# Altium schematic symbol library ColdFire MCU.SchLib: 117 symbols (part 2 of 7)
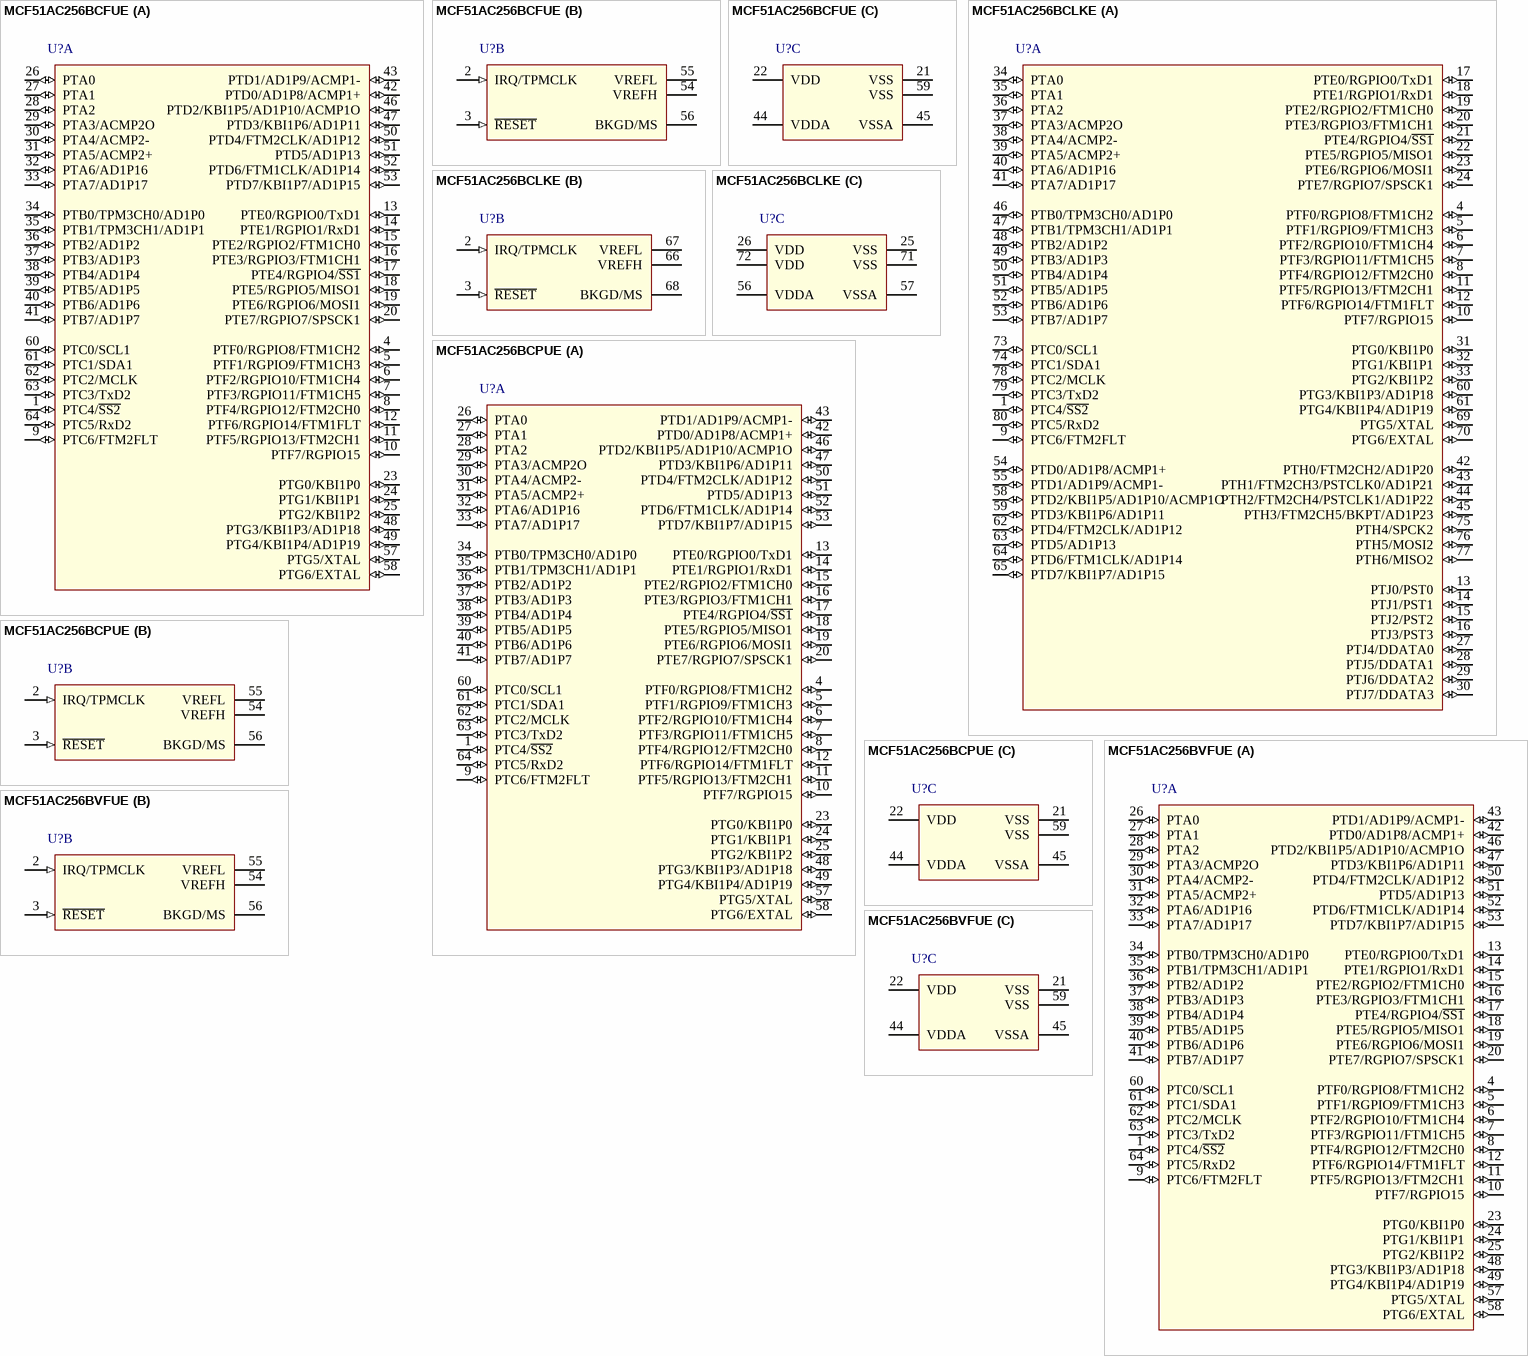
[diagram p32: symbols MCF51AC256BCFUE to MCF51AC256BVFUE]

## MCF51AC256BCLKE
designator U?
MCF51AC256 ColdFire V1 Microcontroller without CAN, 32-Bit, 256KB Flash, 32KB SRAM, -40°C to 85°C, 80-Pin LQFP; DatasheetVersion: rev6, Mar-2011; PackageVersion: revC, May-2005; PackageReference: 1418-01; PackageDescription: 80-Pin Quad Flat Pack 0.65 mm Pitch; ComponentLink1Description: Manufacturer URL; ComponentLink1URL: http://www.freescale.com/; ComponentLink2Description: Datasheet; ComponentLink2URL: http://cache.freescale.com/files/32bit/doc/data_sheet/MCF51AC256.pdf?fpsp=1&WT_TYPE=Data%20Sheets&WT_VENDOR=FREESCALE&WT_FILE_FORMAT=pdf&WT_ASSET=Documentation
footprint 1418-01_N (QFP, 80-Leads, Body 14x14mm, Pitch 0.65mm, IPC Medium Density)
footprint 1418-01_L (QFP, 80-Leads, Body 14x14mm, Pitch 0.65mm, IPC High Density)
footprint 1418-01_M (QFP, 80-Leads, Body 14x14mm, Pitch 0.65mm, IPC Low Density)
part A pins: 1 PTC4/~{SS2} (io), 4 PTF0/RGPIO8/FTM1CH2 (io), 5 PTF1/RGPIO9/FTM1CH3 (io), 6 PTF2/RGPIO10/FTM1CH4 (io), 7 PTF3/RGPIO11/FTM1CH5 (io), 8 PTF4/RGPIO12/FTM2CH0 (io), 9 PTC6/FTM2FLT (io), 10 PTF7/RGPIO15 (io), 11 PTF5/RGPIO13/FTM2CH1 (io), 12 PTF6/RGPIO14/FTM1FLT (io), 13 PTJ0/PST0 (io), 14 PTJ1/PST1 (io), 15 PTJ2/PST2 (io), 16 PTJ3/PST3 (io), 17 PTE0/RGPIO0/TxD1 (io), 18 PTE1/RGPIO1/RxD1 (io), 19 PTE2/RGPIO2/FTM1CH0 (io), 20 PTE3/RGPIO3/FTM1CH1 (io), 21 PTE4/RGPIO4/~{SS1} (io), 22 PTE5/RGPIO5/MISO1 (io), 23 PTE6/RGPIO6/MOSI1 (io), 24 PTE7/RGPIO7/SPSCK1 (io), 27 PTJ4/DDATA0 (io), 28 PTJ5/DDATA1 (io), 29 PTJ6/DDATA2 (io), 30 PTJ7/DDATA3 (io), 31 PTG0/KBI1P0 (io), 32 PTG1/KBI1P1 (io), 33 PTG2/KBI1P2 (io), 34 PTA0 (io), 35 PTA1 (io), 36 PTA2 (io), 37 PTA3/ACMP2O (io), 38 PTA4/ACMP2- (io), 39 PTA5/ACMP2+ (io), 40 PTA6/AD1P16 (io), 41 PTA7/AD1P17 (io), 42 PTH0/FTM2CH2/AD1P20 (io), 43 PTH1/FTM2CH3/PSTCLK0/AD1P21 (io), 44 PTH2/FTM2CH4/PSTCLK1/AD1P22 (io), 45 PTH3/FTM2CH5/BKPT/AD1P23 (io), 46 PTB0/TPM3CH0/AD1P0 (io), 47 PTB1/TPM3CH1/AD1P1 (io), 48 PTB2/AD1P2 (io), 49 PTB3/AD1P3 (io), 50 PTB4/AD1P4 (io), 51 PTB5/AD1P5 (io), 52 PTB6/AD1P6 (io), 53 PTB7/AD1P7 (io), 54 PTD0/AD1P8/ACMP1+ (io), 55 PTD1/AD1P9/ACMP1- (io), 58 PTD2/KBI1P5/AD1P10/ACMP1O (io), 59 PTD3/KBI1P6/AD1P11 (io), 60 PTG3/KBI1P3/AD1P18 (io), 61 PTG4/KBI1P4/AD1P19 (io), 62 PTD4/FTM2CLK/AD1P12 (io), 63 PTD5/AD1P13 (io), 64 PTD6/FTM1CLK/AD1P14 (io), 65 PTD7/KBI1P7/AD1P15 (io), 69 PTG5/XTAL (io), 70 PTG6/EXTAL (io), 73 PTC0/SCL1 (io), 74 PTC1/SDA1 (io), 75 PTH4/SPCK2 (io), 76 PTH5/MOSI2 (io), 77 PTH6/MISO2 (io), 78 PTC2/MCLK (io), 79 PTC3/TxD2 (io), 80 PTC5/RxD2 (io)
part B pins: 2 IRQ/TPMCLK (in), 3 ~{RESET} (in), 66 VREFH (power), 67 VREFL (power), 68 BKGD/MS
part C pins: 25 VSS (power), 26 VDD (power), 56 VDDA (power), 57 VSSA (power), 71 VSS (power), 72 VDD (power)

## MCF51AC256BCPUE
designator U?
MCF51AC256 ColdFire V1 Microcontroller without CAN, 32-Bit, 256KB Flash, 32KB SRAM, -40°C to 85°C, 64-Pin LQFP; DatasheetVersion: rev6, Mar-2011; PackageVersion: rev6, Mar-2011; PackageReference: 840F-02; PackageDescription: 64-Pin Thin Quad Flat Pack, 10 x 10 mm Body, 0.5 mm Pitch; ComponentLink1Description: Manufacturer URL; ComponentLink1URL: http://www.freescale.com/; ComponentLink2Description: Datasheet; ComponentLink2URL: http://cache.freescale.com/files/32bit/doc/data_sheet/MCF51AC256.pdf?fpsp=1&WT_TYPE=Data%20Sheets&WT_VENDOR=FREESCALE&WT_FILE_FORMAT=pdf&WT_ASSET=Documentation
footprint 840F-02_N (Thin QFP, 64-Leads, Body 10x10mm, Pitch 0.5mm, IPC Medium Density)
footprint 840F-02_L (Thin QFP, 64-Leads, Body 10x10mm, Pitch 0.5mm, IPC High Density)
footprint 840F-02_M (Thin QFP, 64-Leads, Body 10x10mm, Pitch 0.5mm, IPC Low Density)
part A pins: 1 PTC4/~{SS2} (io), 4 PTF0/RGPIO8/FTM1CH2 (io), 5 PTF1/RGPIO9/FTM1CH3 (io), 6 PTF2/RGPIO10/FTM1CH4 (io), 7 PTF3/RGPIO11/FTM1CH5 (io), 8 PTF4/RGPIO12/FTM2CH0 (io), 9 PTC6/FTM2FLT (io), 10 PTF7/RGPIO15 (io), 11 PTF5/RGPIO13/FTM2CH1 (io), 12 PTF6/RGPIO14/FTM1FLT (io), 13 PTE0/RGPIO0/TxD1 (io), 14 PTE1/RGPIO1/RxD1 (io), 15 PTE2/RGPIO2/FTM1CH0 (io), 16 PTE3/RGPIO3/FTM1CH1 (io), 17 PTE4/RGPIO4/~{SS1} (io), 18 PTE5/RGPIO5/MISO1 (io), 19 PTE6/RGPIO6/MOSI1 (io), 20 PTE7/RGPIO7/SPSCK1 (io), 23 PTG0/KBI1P0 (io), 24 PTG1/KBI1P1 (io), 25 PTG2/KBI1P2 (io), 26 PTA0 (io), 27 PTA1 (io), 28 PTA2 (io), 29 PTA3/ACMP2O (io), 30 PTA4/ACMP2- (io), 31 PTA5/ACMP2+ (io), 32 PTA6/AD1P16 (io), 33 PTA7/AD1P17 (io), 34 PTB0/TPM3CH0/AD1P0 (io), 35 PTB1/TPM3CH1/AD1P1 (io), 36 PTB2/AD1P2 (io), 37 PTB3/AD1P3 (io), 38 PTB4/AD1P4 (io), 39 PTB5/AD1P5 (io), 40 PTB6/AD1P6 (io), 41 PTB7/AD1P7 (io), 42 PTD0/AD1P8/ACMP1+ (io), 43 PTD1/AD1P9/ACMP1- (io), 46 PTD2/KBI1P5/AD1P10/ACMP1O (io), 47 PTD3/KBI1P6/AD1P11 (io), 48 PTG3/KBI1P3/AD1P18 (io), 49 PTG4/KBI1P4/AD1P19 (io), 50 PTD4/FTM2CLK/AD1P12 (io), 51 PTD5/AD1P13 (io), 52 PTD6/FTM1CLK/AD1P14 (io), 53 PTD7/KBI1P7/AD1P15 (io), 57 PTG5/XTAL (io), 58 PTG6/EXTAL (io), 60 PTC0/SCL1 (io), 61 PTC1/SDA1 (io), 62 PTC2/MCLK (io), 63 PTC3/TxD2 (io), 64 PTC5/RxD2 (io)
part B pins: 2 IRQ/TPMCLK (in), 3 ~{RESET} (in), 54 VREFH (power), 55 VREFL (power), 56 BKGD/MS
part C pins: 21 VSS (power), 22 VDD (power), 44 VDDA (power), 45 VSSA (power), 59 VSS (power)

## MCF51AC256BVFUE
designator U?
MCF51AC256 ColdFire V1 Microcontroller without CAN, 32-Bit, 256KB Flash, 32KB SRAM, -40°C to 105°C, 64-Pin QFP; DatasheetVersion: rev6, Mar-2011; PackageVersion: rev6, Mar-2011; PackageReference: 840B-02; PackageDescription: 64-Pin Quad Flat Pack, 14 x 14 mm Body, 0.8 mm Pitch; ComponentLink1Description: Manufacturer URL; ComponentLink1URL: http://www.freescale.com/; ComponentLink2Description: Datasheet; ComponentLink2URL: http://cache.freescale.com/files/32bit/doc/data_sheet/MCF51AC256.pdf?fpsp=1&WT_TYPE=Data%20Sheets&WT_VENDOR=FREESCALE&WT_FILE_FORMAT=pdf&WT_ASSET=Documentation
footprint 840B-02_N (QFP, 64-Leads, Body 14x14mm, Pitch 0.8mm, IPC Medium Density)
footprint 840B-02_L (QFP, 64-Leads, Body 14x14mm, Pitch 0.8mm, IPC High Density)
footprint 840B-02_M (QFP, 64-Leads, Body 14x14mm, Pitch 0.8mm, IPC Low Density)
part A pins: 1 PTC4/~{SS2} (io), 4 PTF0/RGPIO8/FTM1CH2 (io), 5 PTF1/RGPIO9/FTM1CH3 (io), 6 PTF2/RGPIO10/FTM1CH4 (io), 7 PTF3/RGPIO11/FTM1CH5 (io), 8 PTF4/RGPIO12/FTM2CH0 (io), 9 PTC6/FTM2FLT (io), 10 PTF7/RGPIO15 (io), 11 PTF5/RGPIO13/FTM2CH1 (io), 12 PTF6/RGPIO14/FTM1FLT (io), 13 PTE0/RGPIO0/TxD1 (io), 14 PTE1/RGPIO1/RxD1 (io), 15 PTE2/RGPIO2/FTM1CH0 (io), 16 PTE3/RGPIO3/FTM1CH1 (io), 17 PTE4/RGPIO4/~{SS1} (io), 18 PTE5/RGPIO5/MISO1 (io), 19 PTE6/RGPIO6/MOSI1 (io), 20 PTE7/RGPIO7/SPSCK1 (io), 23 PTG0/KBI1P0 (io), 24 PTG1/KBI1P1 (io), 25 PTG2/KBI1P2 (io), 26 PTA0 (io), 27 PTA1 (io), 28 PTA2 (io), 29 PTA3/ACMP2O (io), 30 PTA4/ACMP2- (io), 31 PTA5/ACMP2+ (io), 32 PTA6/AD1P16 (io), 33 PTA7/AD1P17 (io), 34 PTB0/TPM3CH0/AD1P0 (io), 35 PTB1/TPM3CH1/AD1P1 (io), 36 PTB2/AD1P2 (io), 37 PTB3/AD1P3 (io), 38 PTB4/AD1P4 (io), 39 PTB5/AD1P5 (io), 40 PTB6/AD1P6 (io), 41 PTB7/AD1P7 (io), 42 PTD0/AD1P8/ACMP1+ (io), 43 PTD1/AD1P9/ACMP1- (io), 46 PTD2/KBI1P5/AD1P10/ACMP1O (io), 47 PTD3/KBI1P6/AD1P11 (io), 48 PTG3/KBI1P3/AD1P18 (io), 49 PTG4/KBI1P4/AD1P19 (io), 50 PTD4/FTM2CLK/AD1P12 (io), 51 PTD5/AD1P13 (io), 52 PTD6/FTM1CLK/AD1P14 (io), 53 PTD7/KBI1P7/AD1P15 (io), 57 PTG5/XTAL (io), 58 PTG6/EXTAL (io), 60 PTC0/SCL1 (io), 61 PTC1/SDA1 (io), 62 PTC2/MCLK (io), 63 PTC3/TxD2 (io), 64 PTC5/RxD2 (io)
part B pins: 2 IRQ/TPMCLK (in), 3 ~{RESET} (in), 54 VREFH (power), 55 VREFL (power), 56 BKGD/MS
part C pins: 21 VSS (power), 22 VDD (power), 44 VDDA (power), 45 VSSA (power), 59 VSS (power)

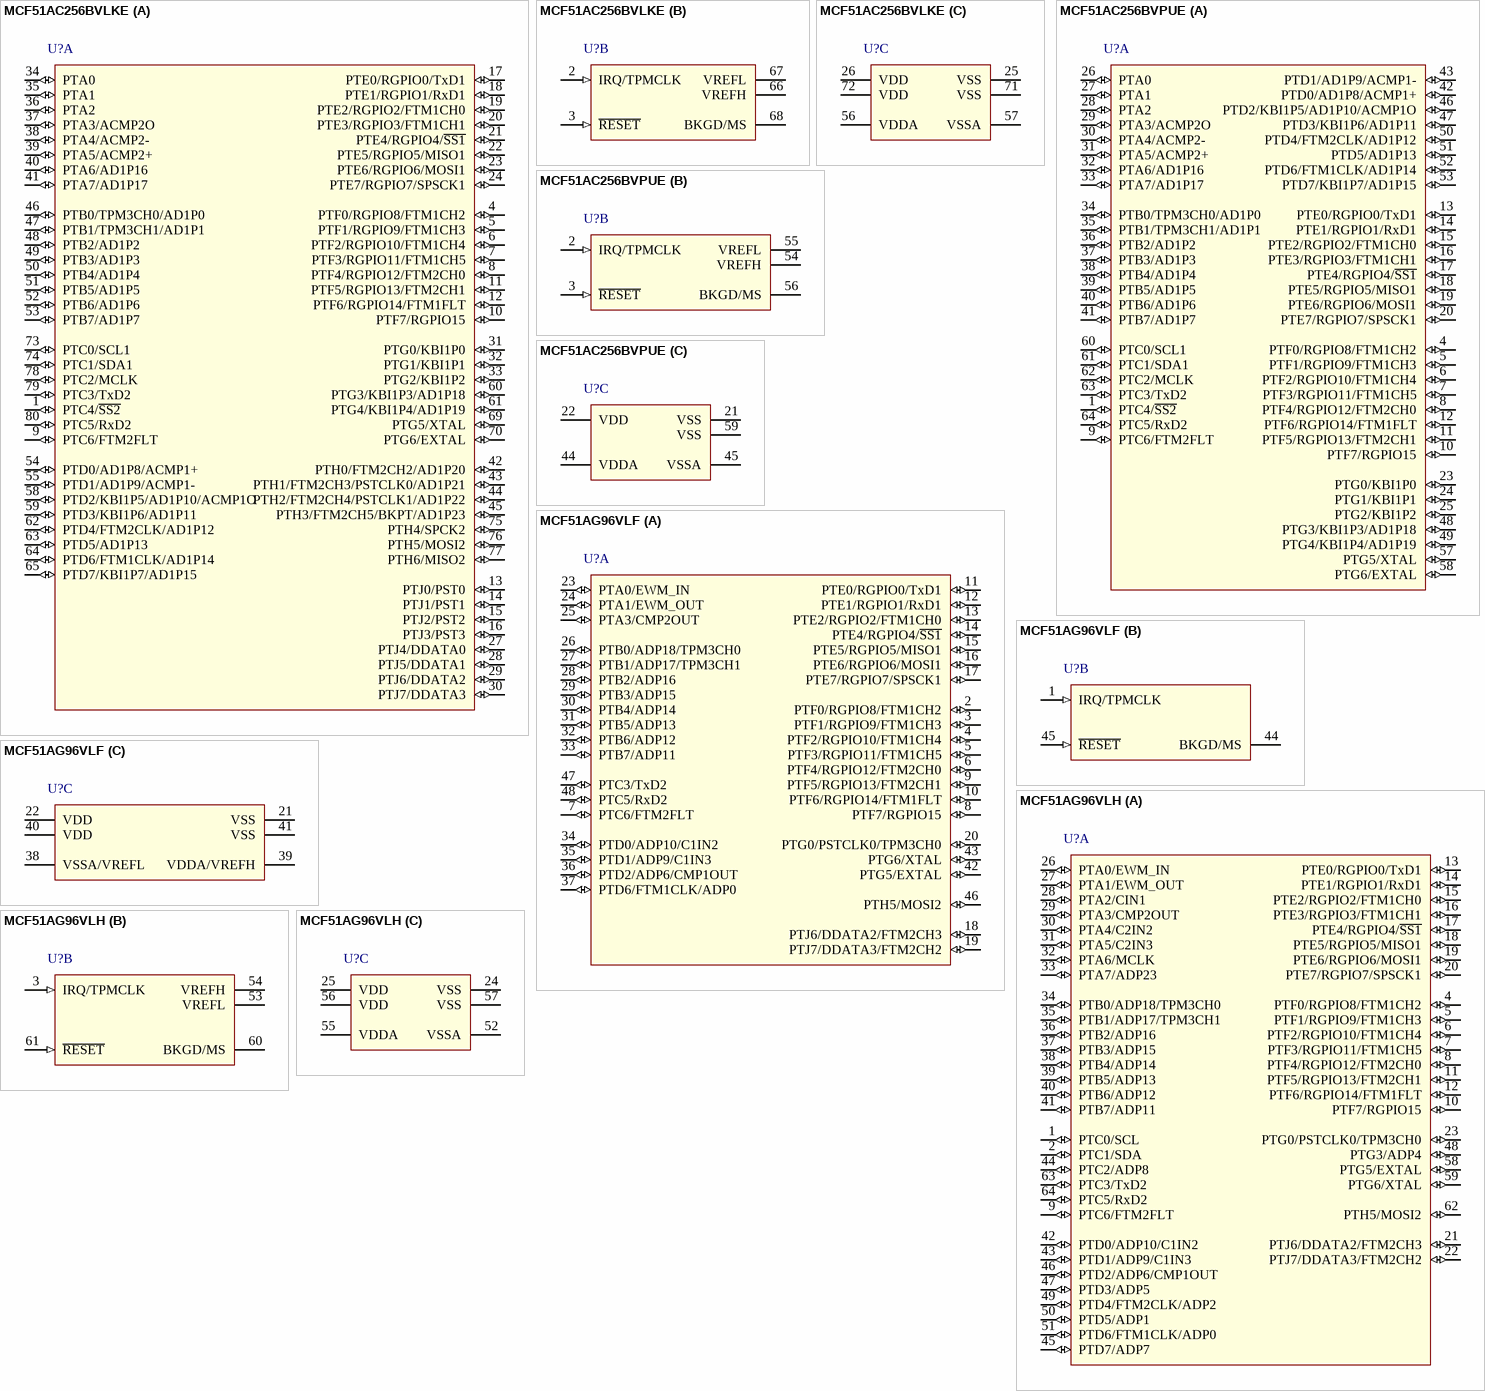
[diagram p5: symbols MCF51AC256BVLKE to MCF51AG96VLH]

## MCF51AC256BVLKE
designator U?
MCF51AC256 ColdFire V1 Microcontroller without CAN, 32-Bit, 256KB Flash, 32KB SRAM, -40°C to 105°C, 80-Pin LQFP; DatasheetVersion: rev6, Mar-2011; PackageVersion: revC, May-2005; PackageReference: 1418-01; PackageDescription: 80-Pin Quad Flat Pack 0.65 mm Pitch; ComponentLink1Description: Manufacturer URL; ComponentLink1URL: http://www.freescale.com/; ComponentLink2Description: Datasheet; ComponentLink2URL: http://cache.freescale.com/files/32bit/doc/data_sheet/MCF51AC256.pdf?fpsp=1&WT_TYPE=Data%20Sheets&WT_VENDOR=FREESCALE&WT_FILE_FORMAT=pdf&WT_ASSET=Documentation
footprint 1418-01_N (QFP, 80-Leads, Body 14x14mm, Pitch 0.65mm, IPC Medium Density)
footprint 1418-01_L (QFP, 80-Leads, Body 14x14mm, Pitch 0.65mm, IPC High Density)
footprint 1418-01_M (QFP, 80-Leads, Body 14x14mm, Pitch 0.65mm, IPC Low Density)
part A pins: 1 PTC4/~{SS2} (io), 4 PTF0/RGPIO8/FTM1CH2 (io), 5 PTF1/RGPIO9/FTM1CH3 (io), 6 PTF2/RGPIO10/FTM1CH4 (io), 7 PTF3/RGPIO11/FTM1CH5 (io), 8 PTF4/RGPIO12/FTM2CH0 (io), 9 PTC6/FTM2FLT (io), 10 PTF7/RGPIO15 (io), 11 PTF5/RGPIO13/FTM2CH1 (io), 12 PTF6/RGPIO14/FTM1FLT (io), 13 PTJ0/PST0 (io), 14 PTJ1/PST1 (io), 15 PTJ2/PST2 (io), 16 PTJ3/PST3 (io), 17 PTE0/RGPIO0/TxD1 (io), 18 PTE1/RGPIO1/RxD1 (io), 19 PTE2/RGPIO2/FTM1CH0 (io), 20 PTE3/RGPIO3/FTM1CH1 (io), 21 PTE4/RGPIO4/~{SS1} (io), 22 PTE5/RGPIO5/MISO1 (io), 23 PTE6/RGPIO6/MOSI1 (io), 24 PTE7/RGPIO7/SPSCK1 (io), 27 PTJ4/DDATA0 (io), 28 PTJ5/DDATA1 (io), 29 PTJ6/DDATA2 (io), 30 PTJ7/DDATA3 (io), 31 PTG0/KBI1P0 (io), 32 PTG1/KBI1P1 (io), 33 PTG2/KBI1P2 (io), 34 PTA0 (io), 35 PTA1 (io), 36 PTA2 (io), 37 PTA3/ACMP2O (io), 38 PTA4/ACMP2- (io), 39 PTA5/ACMP2+ (io), 40 PTA6/AD1P16 (io), 41 PTA7/AD1P17 (io), 42 PTH0/FTM2CH2/AD1P20 (io), 43 PTH1/FTM2CH3/PSTCLK0/AD1P21 (io), 44 PTH2/FTM2CH4/PSTCLK1/AD1P22 (io), 45 PTH3/FTM2CH5/BKPT/AD1P23 (io), 46 PTB0/TPM3CH0/AD1P0 (io), 47 PTB1/TPM3CH1/AD1P1 (io), 48 PTB2/AD1P2 (io), 49 PTB3/AD1P3 (io), 50 PTB4/AD1P4 (io), 51 PTB5/AD1P5 (io), 52 PTB6/AD1P6 (io), 53 PTB7/AD1P7 (io), 54 PTD0/AD1P8/ACMP1+ (io), 55 PTD1/AD1P9/ACMP1- (io), 58 PTD2/KBI1P5/AD1P10/ACMP1O (io), 59 PTD3/KBI1P6/AD1P11 (io), 60 PTG3/KBI1P3/AD1P18 (io), 61 PTG4/KBI1P4/AD1P19 (io), 62 PTD4/FTM2CLK/AD1P12 (io), 63 PTD5/AD1P13 (io), 64 PTD6/FTM1CLK/AD1P14 (io), 65 PTD7/KBI1P7/AD1P15 (io), 69 PTG5/XTAL (io), 70 PTG6/EXTAL (io), 73 PTC0/SCL1 (io), 74 PTC1/SDA1 (io), 75 PTH4/SPCK2 (io), 76 PTH5/MOSI2 (io), 77 PTH6/MISO2 (io), 78 PTC2/MCLK (io), 79 PTC3/TxD2 (io), 80 PTC5/RxD2 (io)
part B pins: 2 IRQ/TPMCLK (in), 3 ~{RESET} (in), 66 VREFH (power), 67 VREFL (power), 68 BKGD/MS
part C pins: 25 VSS (power), 26 VDD (power), 56 VDDA (power), 57 VSSA (power), 71 VSS (power), 72 VDD (power)

## MCF51AC256BVPUE
designator U?
MCF51AC256 ColdFire V1 Microcontroller without CAN, 32-Bit, 256KB Flash, 32KB SRAM, -40°C to 105°C, 64-Pin LQFP; DatasheetVersion: rev6, Mar-2011; PackageVersion: rev6, Mar-2011; PackageReference: 840F-02; PackageDescription: 64-Pin Thin Quad Flat Pack, 10 x 10 mm Body, 0.5 mm Pitch; ComponentLink1Description: Manufacturer URL; ComponentLink1URL: http://www.freescale.com/; ComponentLink2Description: Datasheet; ComponentLink2URL: http://cache.freescale.com/files/32bit/doc/data_sheet/MCF51AC256.pdf?fpsp=1&WT_TYPE=Data%20Sheets&WT_VENDOR=FREESCALE&WT_FILE_FORMAT=pdf&WT_ASSET=Documentation
footprint 840F-02_N (Thin QFP, 64-Leads, Body 10x10mm, Pitch 0.5mm, IPC Medium Density)
footprint 840F-02_L (Thin QFP, 64-Leads, Body 10x10mm, Pitch 0.5mm, IPC High Density)
footprint 840F-02_M (Thin QFP, 64-Leads, Body 10x10mm, Pitch 0.5mm, IPC Low Density)
part A pins: 1 PTC4/~{SS2} (io), 4 PTF0/RGPIO8/FTM1CH2 (io), 5 PTF1/RGPIO9/FTM1CH3 (io), 6 PTF2/RGPIO10/FTM1CH4 (io), 7 PTF3/RGPIO11/FTM1CH5 (io), 8 PTF4/RGPIO12/FTM2CH0 (io), 9 PTC6/FTM2FLT (io), 10 PTF7/RGPIO15 (io), 11 PTF5/RGPIO13/FTM2CH1 (io), 12 PTF6/RGPIO14/FTM1FLT (io), 13 PTE0/RGPIO0/TxD1 (io), 14 PTE1/RGPIO1/RxD1 (io), 15 PTE2/RGPIO2/FTM1CH0 (io), 16 PTE3/RGPIO3/FTM1CH1 (io), 17 PTE4/RGPIO4/~{SS1} (io), 18 PTE5/RGPIO5/MISO1 (io), 19 PTE6/RGPIO6/MOSI1 (io), 20 PTE7/RGPIO7/SPSCK1 (io), 23 PTG0/KBI1P0 (io), 24 PTG1/KBI1P1 (io), 25 PTG2/KBI1P2 (io), 26 PTA0 (io), 27 PTA1 (io), 28 PTA2 (io), 29 PTA3/ACMP2O (io), 30 PTA4/ACMP2- (io), 31 PTA5/ACMP2+ (io), 32 PTA6/AD1P16 (io), 33 PTA7/AD1P17 (io), 34 PTB0/TPM3CH0/AD1P0 (io), 35 PTB1/TPM3CH1/AD1P1 (io), 36 PTB2/AD1P2 (io), 37 PTB3/AD1P3 (io), 38 PTB4/AD1P4 (io), 39 PTB5/AD1P5 (io), 40 PTB6/AD1P6 (io), 41 PTB7/AD1P7 (io), 42 PTD0/AD1P8/ACMP1+ (io), 43 PTD1/AD1P9/ACMP1- (io), 46 PTD2/KBI1P5/AD1P10/ACMP1O (io), 47 PTD3/KBI1P6/AD1P11 (io), 48 PTG3/KBI1P3/AD1P18 (io), 49 PTG4/KBI1P4/AD1P19 (io), 50 PTD4/FTM2CLK/AD1P12 (io), 51 PTD5/AD1P13 (io), 52 PTD6/FTM1CLK/AD1P14 (io), 53 PTD7/KBI1P7/AD1P15 (io), 57 PTG5/XTAL (io), 58 PTG6/EXTAL (io), 60 PTC0/SCL1 (io), 61 PTC1/SDA1 (io), 62 PTC2/MCLK (io), 63 PTC3/TxD2 (io), 64 PTC5/RxD2 (io)
part B pins: 2 IRQ/TPMCLK (in), 3 ~{RESET} (in), 54 VREFH (power), 55 VREFL (power), 56 BKGD/MS
part C pins: 21 VSS (power), 22 VDD (power), 44 VDDA (power), 45 VSSA (power), 59 VSS (power)

## MCF51AG96VLF
designator U?
MCF51AG96 ColdFire V1 Microcontroller, 32-Bit,  96KB Flash, 16KB SRAM, -40°C to 105°C, 48-Pin LQFP; DatasheetVersion: rev5, Jun-2010; PackageVersion: revG, Apr-2005; PackageReference: 932-03; PackageDescription: LQFP, 48 Lead, 7 x 7 x 1.4mm, 0.5mm Pitch; Code_JEDEC: MS-026-BBC; ComponentLink1Description: Manufacturer URL; ComponentLink1URL: http://www.freescale.com/; ComponentLink2Description: Datasheet; ComponentLink2URL: http://cache.freescale.com/files/32bit/doc/data_sheet/MCF51AG128.pdf?fpsp=1&WT_TYPE=Data%20Sheets&WT_VENDOR=FREESCALE&WT_FILE_FORMAT=pdf&WT_ASSET=Documentation
footprint 932-03_N (Thin QFP, 48-Leads, Body 7x7mm, Pitch 0.5mm, IPC Medium Density)
footprint 932-03_L (Thin QFP, 48-Leads, Body 7x7mm, Pitch 0.5mm, IPC High Density)
footprint 932-03_M (Thin QFP, 48-Leads, Body 7x7mm, Pitch 0.5mm, IPC Low Density)
part A pins: 2 PTF0/RGPIO8/FTM1CH2 (io), 3 PTF1/RGPIO9/FTM1CH3 (io), 4 PTF2/RGPIO10/FTM1CH4 (io), 5 PTF3/RGPIO11/FTM1CH5 (io), 6 PTF4/RGPIO12/FTM2CH0 (io), 7 PTC6/FTM2FLT (io), 8 PTF7/RGPIO15 (io), 9 PTF5/RGPIO13/FTM2CH1 (io), 10 PTF6/RGPIO14/FTM1FLT (io), 11 PTE0/RGPIO0/TxD1 (io), 12 PTE1/RGPIO1/RxD1 (io), 13 PTE2/RGPIO2/FTM1CH0 (io), 14 PTE4/RGPIO4/~{SS1} (io), 15 PTE5/RGPIO5/MISO1 (io), 16 PTE6/RGPIO6/MOSI1 (io), 17 PTE7/RGPIO7/SPSCK1 (io), 18 PTJ6/DDATA2/FTM2CH3 (io), 19 PTJ7/DDATA3/FTM2CH2 (io), 20 PTG0/PSTCLK0/TPM3CH0 (io), 23 PTA0/EWM_IN (io), 24 PTA1/EWM_OUT (io), 25 PTA3/CMP2OUT (io), 26 PTB0/ADP18/TPM3CH0 (io), 27 PTB1/ADP17/TPM3CH1 (io), 28 PTB2/ADP16 (io), 29 PTB3/ADP15 (io), 30 PTB4/ADP14 (io), 31 PTB5/ADP13 (io), 32 PTB6/ADP12 (io), 33 PTB7/ADP11 (io), 34 PTD0/ADP10/C1IN2 (io), 35 PTD1/ADP9/C1IN3 (io), 36 PTD2/ADP6/CMP1OUT (io), 37 PTD6/FTM1CLK/ADP0 (io), 42 PTG5/EXTAL (io), 43 PTG6/XTAL (io), 46 PTH5/MOSI2 (io), 47 PTC3/TxD2 (io), 48 PTC5/RxD2 (io)
part B pins: 1 IRQ/TPMCLK (in), 44 BKGD/MS, 45 ~{RESET} (in)
part C pins: 21 VSS (power), 22 VDD (power), 38 VSSA/VREFL (power), 39 VDDA/VREFH (power), 40 VDD (power), 41 VSS (power)

## MCF51AG96VLH
designator U?
MCF51AG96 ColdFire V1 Microcontroller, 32-Bit,  96KB Flash, 16KB SRAM, -40°C to 105°C, 64-Pin LQFP; DatasheetVersion: rev5, Jun-2010; PackageVersion: rev6, Mar-2011; PackageReference: 840F-02; PackageDescription: 64-Pin Thin Quad Flat Pack, 10 x 10 mm Body, 0.5 mm Pitch; ComponentLink1Description: Manufacturer URL; ComponentLink1URL: http://www.freescale.com/; ComponentLink2Description: Datasheet; ComponentLink2URL: http://cache.freescale.com/files/32bit/doc/data_sheet/MCF51AG128.pdf?fpsp=1&WT_TYPE=Data%20Sheets&WT_VENDOR=FREESCALE&WT_FILE_FORMAT=pdf&WT_ASSET=Documentation
footprint 840F-02_N (Thin QFP, 64-Leads, Body 10x10mm, Pitch 0.5mm, IPC Medium Density)
footprint 840F-02_L (Thin QFP, 64-Leads, Body 10x10mm, Pitch 0.5mm, IPC High Density)
footprint 840F-02_M (Thin QFP, 64-Leads, Body 10x10mm, Pitch 0.5mm, IPC Low Density)
part A pins: 1 PTC0/SCL (io), 2 PTC1/SDA (io), 4 PTF0/RGPIO8/FTM1CH2 (io), 5 PTF1/RGPIO9/FTM1CH3 (io), 6 PTF2/RGPIO10/FTM1CH4 (io), 7 PTF3/RGPIO11/FTM1CH5 (io), 8 PTF4/RGPIO12/FTM2CH0 (io), 9 PTC6/FTM2FLT (io), 10 PTF7/RGPIO15 (io), 11 PTF5/RGPIO13/FTM2CH1 (io), 12 PTF6/RGPIO14/FTM1FLT (io), 13 PTE0/RGPIO0/TxD1 (io), 14 PTE1/RGPIO1/RxD1 (io), 15 PTE2/RGPIO2/FTM1CH0 (io), 16 PTE3/RGPIO3/FTM1CH1 (io), 17 PTE4/RGPIO4/~{SS1} (io), 18 PTE5/RGPIO5/MISO1 (io), 19 PTE6/RGPIO6/MOSI1 (io), 20 PTE7/RGPIO7/SPSCK1 (io), 21 PTJ6/DDATA2/FTM2CH3 (io), 22 PTJ7/DDATA3/FTM2CH2 (io), 23 PTG0/PSTCLK0/TPM3CH0 (io), 26 PTA0/EWM_IN (io), 27 PTA1/EWM_OUT (io), 28 PTA2/CIN1 (io), 29 PTA3/CMP2OUT (io), 30 PTA4/C2IN2 (io), 31 PTA5/C2IN3 (io), 32 PTA6/MCLK (io), 33 PTA7/ADP23 (io), 34 PTB0/ADP18/TPM3CH0 (io), 35 PTB1/ADP17/TPM3CH1 (io), 36 PTB2/ADP16 (io), 37 PTB3/ADP15 (io), 38 PTB4/ADP14 (io), 39 PTB5/ADP13 (io), 40 PTB6/ADP12 (io), 41 PTB7/ADP11 (io), 42 PTD0/ADP10/C1IN2 (io), 43 PTD1/ADP9/C1IN3 (io), 44 PTC2/ADP8 (io), 45 PTD7/ADP7 (io), 46 PTD2/ADP6/CMP1OUT (io), 47 PTD3/ADP5 (io), 48 PTG3/ADP4 (io), 49 PTD4/FTM2CLK/ADP2 (io), 50 PTD5/ADP1 (io), 51 PTD6/FTM1CLK/ADP0 (io), 58 PTG5/EXTAL (io), 59 PTG6/XTAL (io), 62 PTH5/MOSI2 (io), 63 PTC3/TxD2 (io), 64 PTC5/RxD2 (io)
part B pins: 3 IRQ/TPMCLK (in), 53 VREFL (power), 54 VREFH (power), 60 BKGD/MS, 61 ~{RESET} (in)
part C pins: 24 VSS (power), 25 VDD (power), 52 VSSA (power), 55 VDDA (power), 56 VDD (power), 57 VSS (power)

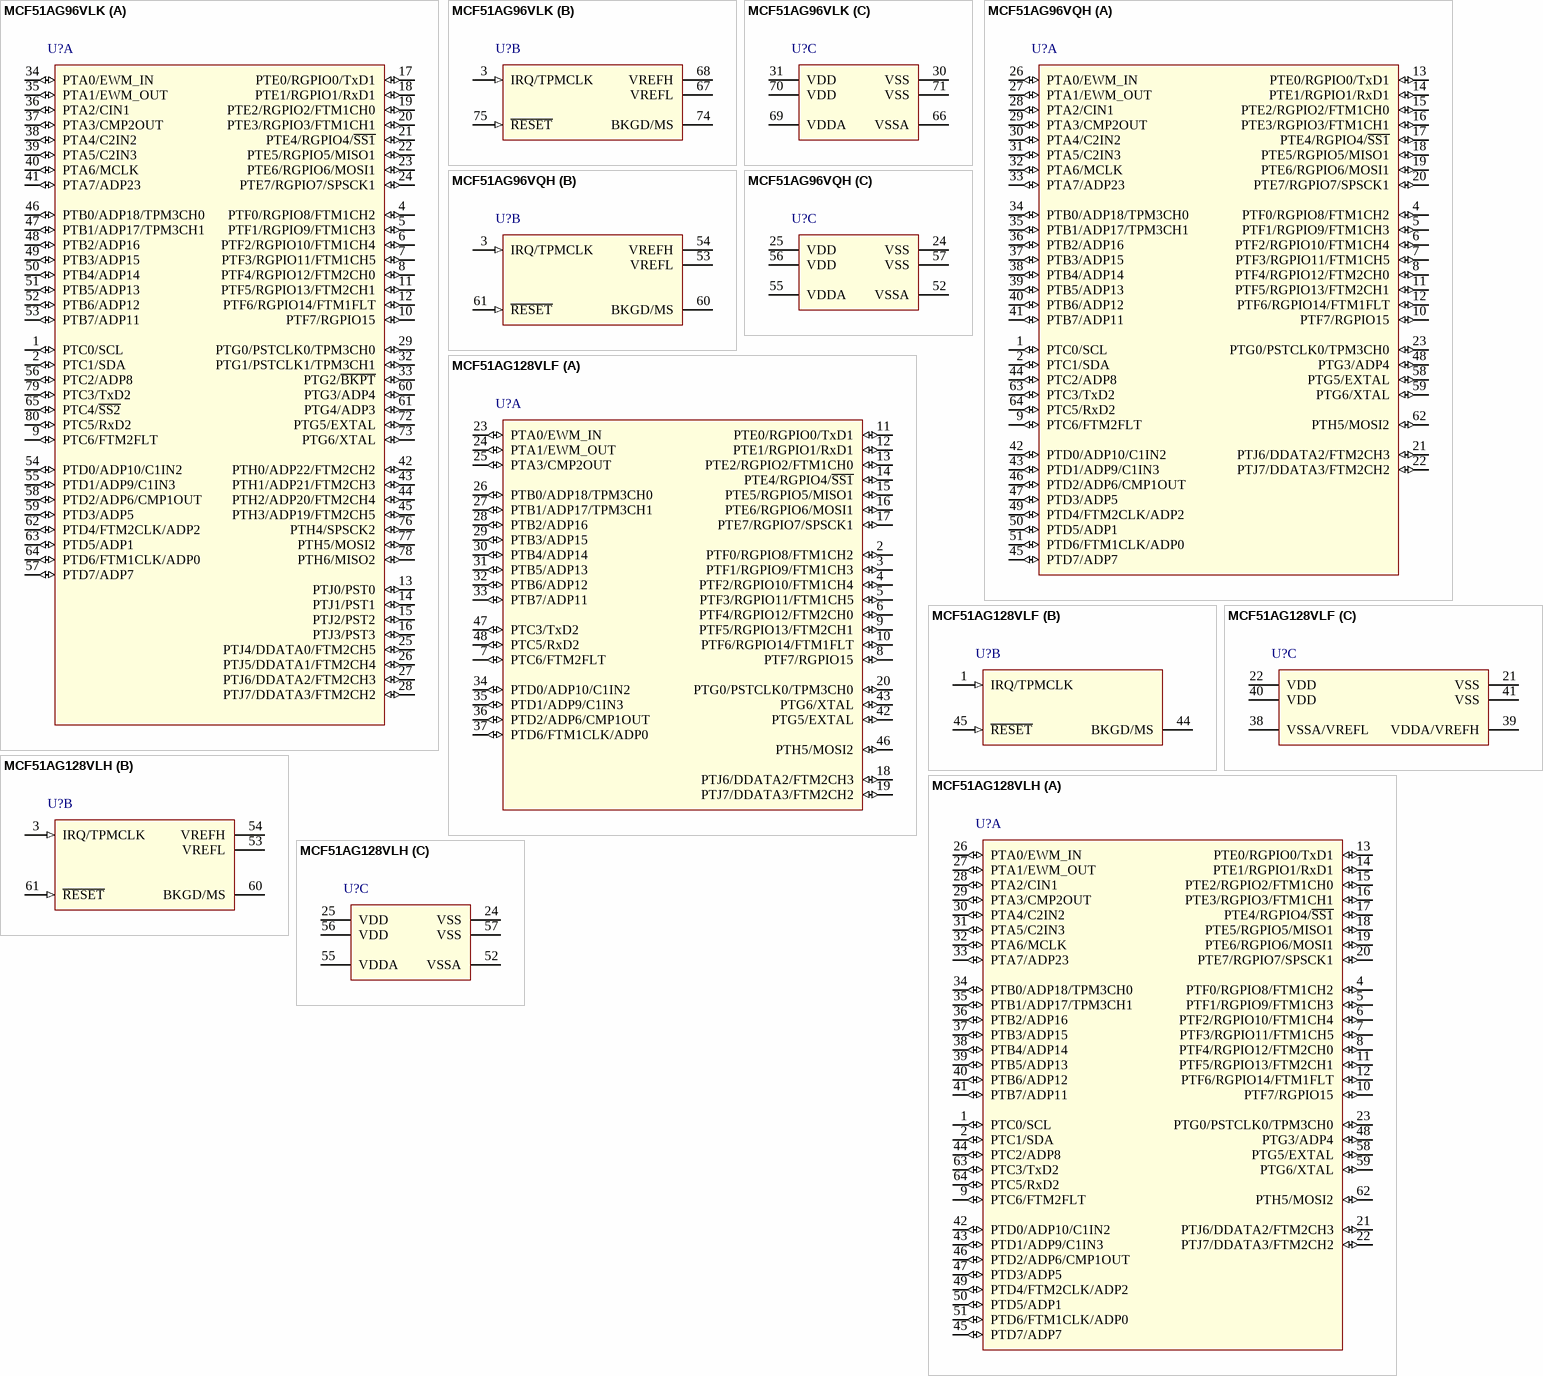
[diagram p6: symbols MCF51AG96VLK to MCF51AG128VLH]

## MCF51AG96VLK
designator U?
MCF51AG96 ColdFire V1 Microcontroller, 32-Bit,  96KB Flash, 16KB SRAM, -40°C to 105°C, 80-Pin LQFP; DatasheetVersion: rev5, Jun-2010; PackageVersion: revC, May-2005; PackageReference: 1418-01; PackageDescription: 80-Pin Quad Flat Pack 0.65 mm Pitch; ComponentLink1Description: Manufacturer URL; ComponentLink1URL: http://www.freescale.com/; ComponentLink2Description: Datasheet; ComponentLink2URL: http://cache.freescale.com/files/32bit/doc/data_sheet/MCF51AG128.pdf?fpsp=1&WT_TYPE=Data%20Sheets&WT_VENDOR=FREESCALE&WT_FILE_FORMAT=pdf&WT_ASSET=Documentation
footprint 1418-01_N (QFP, 80-Leads, Body 14x14mm, Pitch 0.65mm, IPC Medium Density)
footprint 1418-01_L (QFP, 80-Leads, Body 14x14mm, Pitch 0.65mm, IPC High Density)
footprint 1418-01_M (QFP, 80-Leads, Body 14x14mm, Pitch 0.65mm, IPC Low Density)
part A pins: 1 PTC0/SCL (io), 2 PTC1/SDA (io), 4 PTF0/RGPIO8/FTM1CH2 (io), 5 PTF1/RGPIO9/FTM1CH3 (io), 6 PTF2/RGPIO10/FTM1CH4 (io), 7 PTF3/RGPIO11/FTM1CH5 (io), 8 PTF4/RGPIO12/FTM2CH0 (io), 9 PTC6/FTM2FLT (io), 10 PTF7/RGPIO15 (io), 11 PTF5/RGPIO13/FTM2CH1 (io), 12 PTF6/RGPIO14/FTM1FLT (io), 13 PTJ0/PST0 (io), 14 PTJ1/PST1 (io), 15 PTJ2/PST2 (io), 16 PTJ3/PST3 (io), 17 PTE0/RGPIO0/TxD1 (io), 18 PTE1/RGPIO1/RxD1 (io), 19 PTE2/RGPIO2/FTM1CH0 (io), 20 PTE3/RGPIO3/FTM1CH1 (io), 21 PTE4/RGPIO4/~{SS1} (io), 22 PTE5/RGPIO5/MISO1 (io), 23 PTE6/RGPIO6/MOSI1 (io), 24 PTE7/RGPIO7/SPSCK1 (io), 25 PTJ4/DDATA0/FTM2CH5 (io), 26 PTJ5/DDATA1/FTM2CH4 (io), 27 PTJ6/DDATA2/FTM2CH3 (io), 28 PTJ7/DDATA3/FTM2CH2 (io), 29 PTG0/PSTCLK0/TPM3CH0 (io), 32 PTG1/PSTCLK1/TPM3CH1 (io), 33 PTG2/~{BKPT} (io), 34 PTA0/EWM_IN (io), 35 PTA1/EWM_OUT (io), 36 PTA2/CIN1 (io), 37 PTA3/CMP2OUT (io), 38 PTA4/C2IN2 (io), 39 PTA5/C2IN3 (io), 40 PTA6/MCLK (io), 41 PTA7/ADP23 (io), 42 PTH0/ADP22/FTM2CH2 (io), 43 PTH1/ADP21/FTM2CH3 (io), 44 PTH2/ADP20/FTM2CH4 (io), 45 PTH3/ADP19/FTM2CH5 (io), 46 PTB0/ADP18/TPM3CH0 (io), 47 PTB1/ADP17/TPM3CH1 (io), 48 PTB2/ADP16 (io), 49 PTB3/ADP15 (io), 50 PTB4/ADP14 (io), 51 PTB5/ADP13 (io), 52 PTB6/ADP12 (io), 53 PTB7/ADP11 (io), 54 PTD0/ADP10/C1IN2 (io), 55 PTD1/ADP9/C1IN3 (io), 56 PTC2/ADP8 (io), 57 PTD7/ADP7 (io), 58 PTD2/ADP6/CMP1OUT (io), 59 PTD3/ADP5 (io), 60 PTG3/ADP4 (io), 61 PTG4/ADP3 (io), 62 PTD4/FTM2CLK/ADP2 (io), 63 PTD5/ADP1 (io), 64 PTD6/FTM1CLK/ADP0 (io), 65 PTC4/~{SS2} (io), 72 PTG5/EXTAL (io), 73 PTG6/XTAL (io), 76 PTH4/SPSCK2 (io), 77 PTH5/MOSI2 (io), 78 PTH6/MISO2 (io), 79 PTC3/TxD2 (io), 80 PTC5/RxD2 (io)
part B pins: 3 IRQ/TPMCLK (in), 67 VREFL (power), 68 VREFH (power), 74 BKGD/MS, 75 ~{RESET} (in)
part C pins: 30 VSS (power), 31 VDD (power), 66 VSSA (power), 69 VDDA (power), 70 VDD (power), 71 VSS (power)

## MCF51AG96VQH
designator U?
MCF51AG96 ColdFire V1 Microcontroller, 32-Bit,  96KB Flash, 16KB SRAM, -40°C to 105°C, 64-Pin QFP; DatasheetVersion: rev5, Jun-2010; PackageVersion: rev6, Mar-2011; PackageReference: 840B-02; PackageDescription: 64-Pin Quad Flat Pack, 14 x 14 mm Body, 0.8 mm Pitch; ComponentLink1Description: Manufacturer URL; ComponentLink1URL: http://www.freescale.com/; ComponentLink2Description: Datasheet; ComponentLink2URL: http://cache.freescale.com/files/32bit/doc/data_sheet/MCF51AG128.pdf?fpsp=1&WT_TYPE=Data%20Sheets&WT_VENDOR=FREESCALE&WT_FILE_FORMAT=pdf&WT_ASSET=Documentation
footprint 840B-02_N (QFP, 64-Leads, Body 14x14mm, Pitch 0.8mm, IPC Medium Density)
footprint 840B-02_L (QFP, 64-Leads, Body 14x14mm, Pitch 0.8mm, IPC High Density)
footprint 840B-02_M (QFP, 64-Leads, Body 14x14mm, Pitch 0.8mm, IPC Low Density)
part A pins: 1 PTC0/SCL (io), 2 PTC1/SDA (io), 4 PTF0/RGPIO8/FTM1CH2 (io), 5 PTF1/RGPIO9/FTM1CH3 (io), 6 PTF2/RGPIO10/FTM1CH4 (io), 7 PTF3/RGPIO11/FTM1CH5 (io), 8 PTF4/RGPIO12/FTM2CH0 (io), 9 PTC6/FTM2FLT (io), 10 PTF7/RGPIO15 (io), 11 PTF5/RGPIO13/FTM2CH1 (io), 12 PTF6/RGPIO14/FTM1FLT (io), 13 PTE0/RGPIO0/TxD1 (io), 14 PTE1/RGPIO1/RxD1 (io), 15 PTE2/RGPIO2/FTM1CH0 (io), 16 PTE3/RGPIO3/FTM1CH1 (io), 17 PTE4/RGPIO4/~{SS1} (io), 18 PTE5/RGPIO5/MISO1 (io), 19 PTE6/RGPIO6/MOSI1 (io), 20 PTE7/RGPIO7/SPSCK1 (io), 21 PTJ6/DDATA2/FTM2CH3 (io), 22 PTJ7/DDATA3/FTM2CH2 (io), 23 PTG0/PSTCLK0/TPM3CH0 (io), 26 PTA0/EWM_IN (io), 27 PTA1/EWM_OUT (io), 28 PTA2/CIN1 (io), 29 PTA3/CMP2OUT (io), 30 PTA4/C2IN2 (io), 31 PTA5/C2IN3 (io), 32 PTA6/MCLK (io), 33 PTA7/ADP23 (io), 34 PTB0/ADP18/TPM3CH0 (io), 35 PTB1/ADP17/TPM3CH1 (io), 36 PTB2/ADP16 (io), 37 PTB3/ADP15 (io), 38 PTB4/ADP14 (io), 39 PTB5/ADP13 (io), 40 PTB6/ADP12 (io), 41 PTB7/ADP11 (io), 42 PTD0/ADP10/C1IN2 (io), 43 PTD1/ADP9/C1IN3 (io), 44 PTC2/ADP8 (io), 45 PTD7/ADP7 (io), 46 PTD2/ADP6/CMP1OUT (io), 47 PTD3/ADP5 (io), 48 PTG3/ADP4 (io), 49 PTD4/FTM2CLK/ADP2 (io), 50 PTD5/ADP1 (io), 51 PTD6/FTM1CLK/ADP0 (io), 58 PTG5/EXTAL (io), 59 PTG6/XTAL (io), 62 PTH5/MOSI2 (io), 63 PTC3/TxD2 (io), 64 PTC5/RxD2 (io)
part B pins: 3 IRQ/TPMCLK (in), 53 VREFL (power), 54 VREFH (power), 60 BKGD/MS, 61 ~{RESET} (in)
part C pins: 24 VSS (power), 25 VDD (power), 52 VSSA (power), 55 VDDA (power), 56 VDD (power), 57 VSS (power)

## MCF51AG128VLF
designator U?
MCF51AG128 ColdFire V1 Microcontroller, 32-Bit,  128KB Flash, 16KB SRAM, -40°C to 105°C, 48-Pin LQFP; DatasheetVersion: rev5, Jun-2010; PackageVersion: revG, Apr-2005; PackageReference: 932-03; PackageDescription: LQFP, 48 Lead, 7 x 7 x 1.4mm, 0.5mm Pitch; Code_JEDEC: MS-026-BBC; ComponentLink1Description: Manufacturer URL; ComponentLink1URL: http://www.freescale.com/; ComponentLink2Description: Datasheet; ComponentLink2URL: http://cache.freescale.com/files/32bit/doc/data_sheet/MCF51AG128.pdf?fpsp=1&WT_TYPE=Data%20Sheets&WT_VENDOR=FREESCALE&WT_FILE_FORMAT=pdf&WT_ASSET=Documentation
footprint 932-03_N (Thin QFP, 48-Leads, Body 7x7mm, Pitch 0.5mm, IPC Medium Density)
footprint 932-03_L (Thin QFP, 48-Leads, Body 7x7mm, Pitch 0.5mm, IPC High Density)
footprint 932-03_M (Thin QFP, 48-Leads, Body 7x7mm, Pitch 0.5mm, IPC Low Density)
part A pins: 2 PTF0/RGPIO8/FTM1CH2 (io), 3 PTF1/RGPIO9/FTM1CH3 (io), 4 PTF2/RGPIO10/FTM1CH4 (io), 5 PTF3/RGPIO11/FTM1CH5 (io), 6 PTF4/RGPIO12/FTM2CH0 (io), 7 PTC6/FTM2FLT (io), 8 PTF7/RGPIO15 (io), 9 PTF5/RGPIO13/FTM2CH1 (io), 10 PTF6/RGPIO14/FTM1FLT (io), 11 PTE0/RGPIO0/TxD1 (io), 12 PTE1/RGPIO1/RxD1 (io), 13 PTE2/RGPIO2/FTM1CH0 (io), 14 PTE4/RGPIO4/~{SS1} (io), 15 PTE5/RGPIO5/MISO1 (io), 16 PTE6/RGPIO6/MOSI1 (io), 17 PTE7/RGPIO7/SPSCK1 (io), 18 PTJ6/DDATA2/FTM2CH3 (io), 19 PTJ7/DDATA3/FTM2CH2 (io), 20 PTG0/PSTCLK0/TPM3CH0 (io), 23 PTA0/EWM_IN (io), 24 PTA1/EWM_OUT (io), 25 PTA3/CMP2OUT (io), 26 PTB0/ADP18/TPM3CH0 (io), 27 PTB1/ADP17/TPM3CH1 (io), 28 PTB2/ADP16 (io), 29 PTB3/ADP15 (io), 30 PTB4/ADP14 (io), 31 PTB5/ADP13 (io), 32 PTB6/ADP12 (io), 33 PTB7/ADP11 (io), 34 PTD0/ADP10/C1IN2 (io), 35 PTD1/ADP9/C1IN3 (io), 36 PTD2/ADP6/CMP1OUT (io), 37 PTD6/FTM1CLK/ADP0 (io), 42 PTG5/EXTAL (io), 43 PTG6/XTAL (io), 46 PTH5/MOSI2 (io), 47 PTC3/TxD2 (io), 48 PTC5/RxD2 (io)
part B pins: 1 IRQ/TPMCLK (in), 44 BKGD/MS, 45 ~{RESET} (in)
part C pins: 21 VSS (power), 22 VDD (power), 38 VSSA/VREFL (power), 39 VDDA/VREFH (power), 40 VDD (power), 41 VSS (power)

## MCF51AG128VLH
designator U?
MCF51AG128 ColdFire V1 Microcontroller, 32-Bit,  128KB Flash, 16KB SRAM, -40°C to 105°C, 64-Pin LQFP; DatasheetVersion: rev5, Jun-2010; PackageVersion: rev6, Mar-2011; PackageReference: 840F-02; PackageDescription: 64-Pin Thin Quad Flat Pack, 10 x 10 mm Body, 0.5 mm Pitch; ComponentLink1Description: Manufacturer URL; ComponentLink1URL: http://www.freescale.com/; ComponentLink2Description: Datasheet; ComponentLink2URL: http://cache.freescale.com/files/32bit/doc/data_sheet/MCF51AG128.pdf?fpsp=1&WT_TYPE=Data%20Sheets&WT_VENDOR=FREESCALE&WT_FILE_FORMAT=pdf&WT_ASSET=Documentation
footprint 840F-02_N (Thin QFP, 64-Leads, Body 10x10mm, Pitch 0.5mm, IPC Medium Density)
footprint 840F-02_L (Thin QFP, 64-Leads, Body 10x10mm, Pitch 0.5mm, IPC High Density)
footprint 840F-02_M (Thin QFP, 64-Leads, Body 10x10mm, Pitch 0.5mm, IPC Low Density)
part A pins: 1 PTC0/SCL (io), 2 PTC1/SDA (io), 4 PTF0/RGPIO8/FTM1CH2 (io), 5 PTF1/RGPIO9/FTM1CH3 (io), 6 PTF2/RGPIO10/FTM1CH4 (io), 7 PTF3/RGPIO11/FTM1CH5 (io), 8 PTF4/RGPIO12/FTM2CH0 (io), 9 PTC6/FTM2FLT (io), 10 PTF7/RGPIO15 (io), 11 PTF5/RGPIO13/FTM2CH1 (io), 12 PTF6/RGPIO14/FTM1FLT (io), 13 PTE0/RGPIO0/TxD1 (io), 14 PTE1/RGPIO1/RxD1 (io), 15 PTE2/RGPIO2/FTM1CH0 (io), 16 PTE3/RGPIO3/FTM1CH1 (io), 17 PTE4/RGPIO4/~{SS1} (io), 18 PTE5/RGPIO5/MISO1 (io), 19 PTE6/RGPIO6/MOSI1 (io), 20 PTE7/RGPIO7/SPSCK1 (io), 21 PTJ6/DDATA2/FTM2CH3 (io), 22 PTJ7/DDATA3/FTM2CH2 (io), 23 PTG0/PSTCLK0/TPM3CH0 (io), 26 PTA0/EWM_IN (io), 27 PTA1/EWM_OUT (io), 28 PTA2/CIN1 (io), 29 PTA3/CMP2OUT (io), 30 PTA4/C2IN2 (io), 31 PTA5/C2IN3 (io), 32 PTA6/MCLK (io), 33 PTA7/ADP23 (io), 34 PTB0/ADP18/TPM3CH0 (io), 35 PTB1/ADP17/TPM3CH1 (io), 36 PTB2/ADP16 (io), 37 PTB3/ADP15 (io), 38 PTB4/ADP14 (io), 39 PTB5/ADP13 (io), 40 PTB6/ADP12 (io), 41 PTB7/ADP11 (io), 42 PTD0/ADP10/C1IN2 (io), 43 PTD1/ADP9/C1IN3 (io), 44 PTC2/ADP8 (io), 45 PTD7/ADP7 (io), 46 PTD2/ADP6/CMP1OUT (io), 47 PTD3/ADP5 (io), 48 PTG3/ADP4 (io), 49 PTD4/FTM2CLK/ADP2 (io), 50 PTD5/ADP1 (io), 51 PTD6/FTM1CLK/ADP0 (io), 58 PTG5/EXTAL (io), 59 PTG6/XTAL (io), 62 PTH5/MOSI2 (io), 63 PTC3/TxD2 (io), 64 PTC5/RxD2 (io)
part B pins: 3 IRQ/TPMCLK (in), 53 VREFL (power), 54 VREFH (power), 60 BKGD/MS, 61 ~{RESET} (in)
part C pins: 24 VSS (power), 25 VDD (power), 52 VSSA (power), 55 VDDA (power), 56 VDD (power), 57 VSS (power)

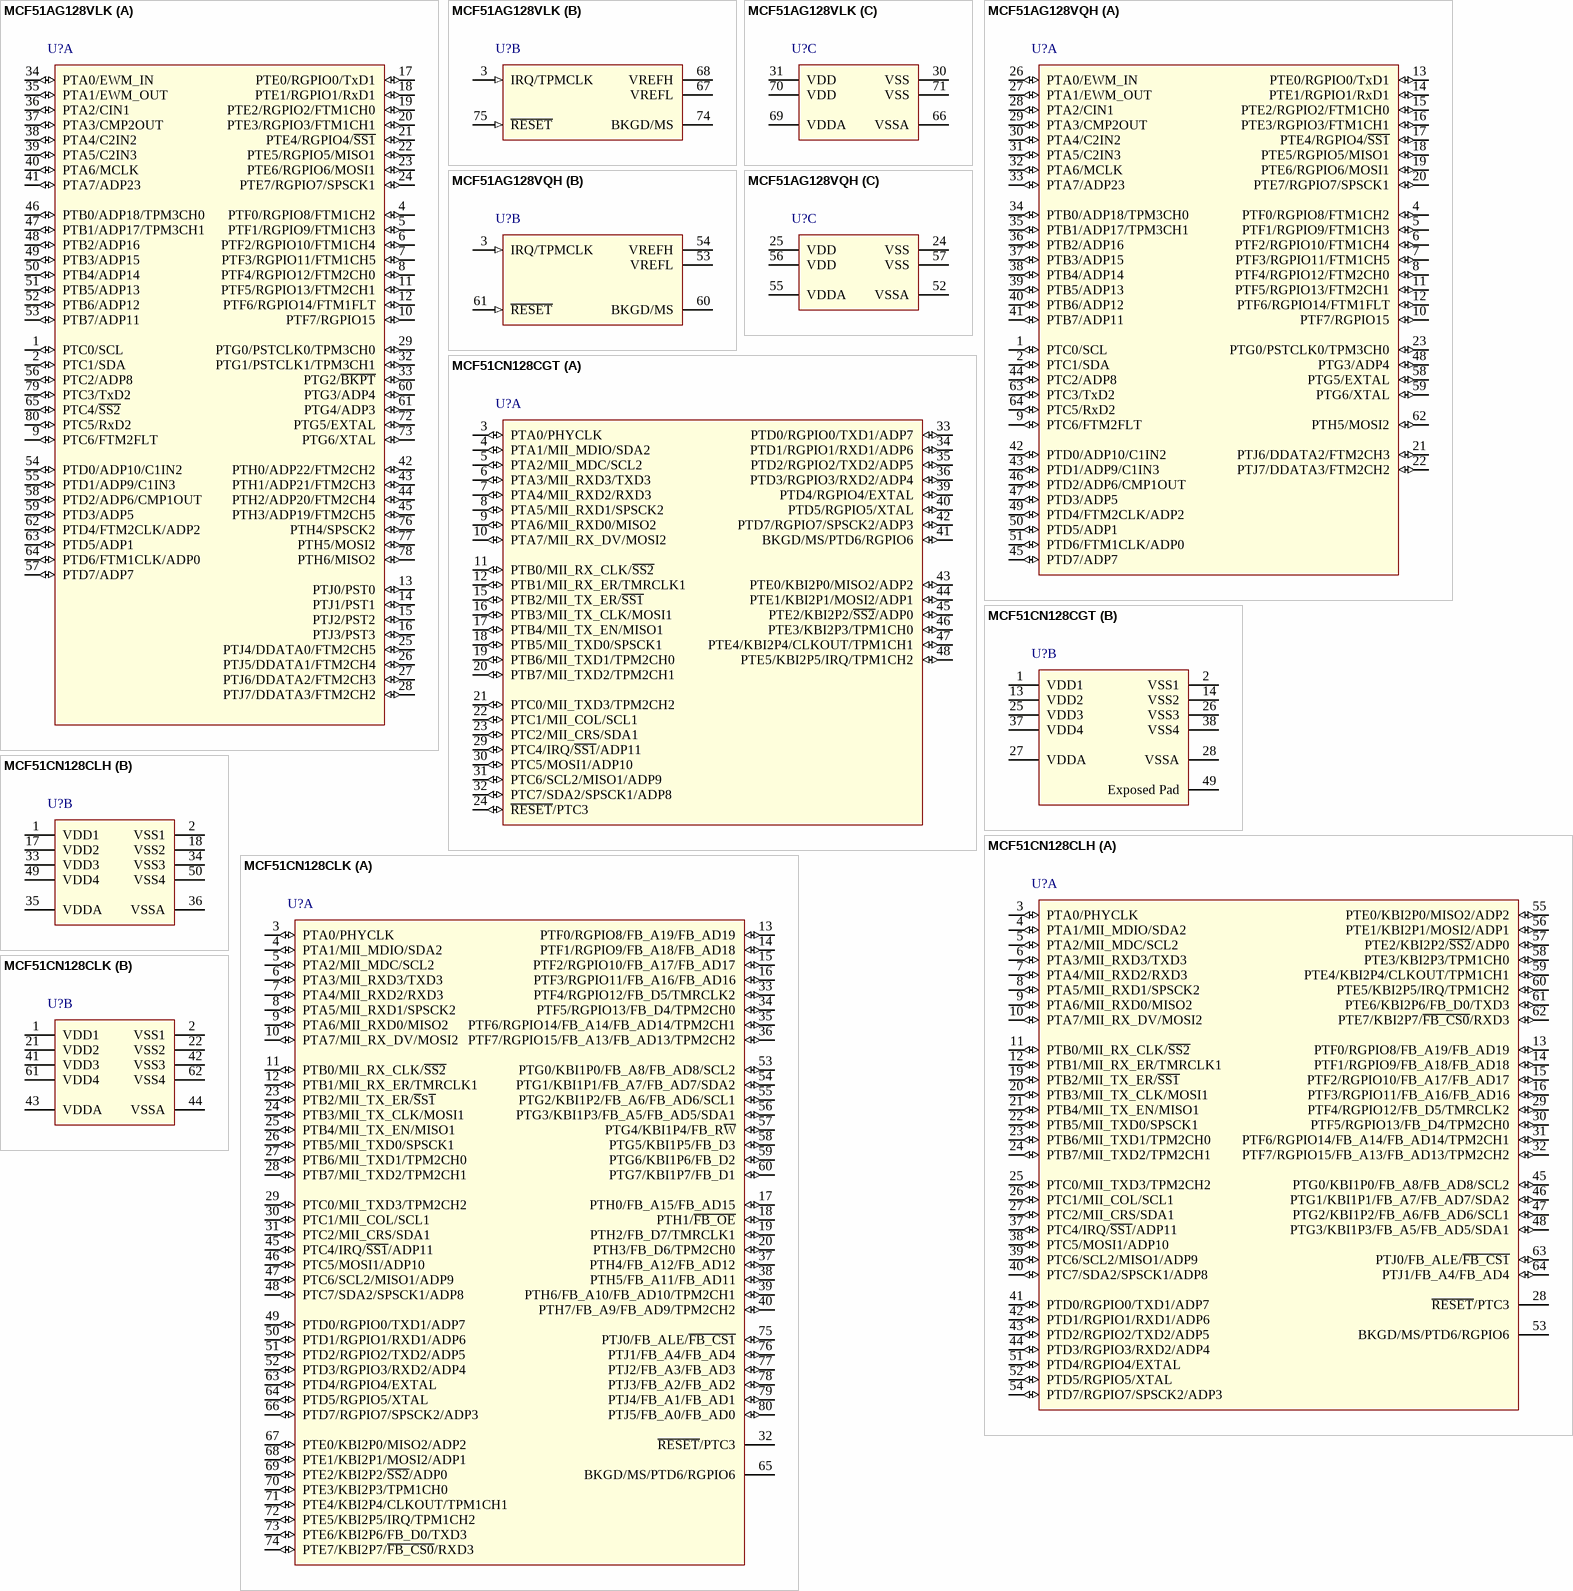
[diagram p7: symbols MCF51AG128VLK to MCF51CN128CLK]

## MCF51AG128VLK
designator U?
MCF51AG128 ColdFire V1 Microcontroller, 32-Bit,  128KB Flash, 16KB SRAM, -40°C to 105°C, 80-Pin LQFP; DatasheetVersion: rev5, Jun-2010; PackageVersion: revC, May-2005; PackageReference: 1418-01; PackageDescription: 80-Pin Quad Flat Pack 0.65 mm Pitch; ComponentLink1Description: Manufacturer URL; ComponentLink1URL: http://www.freescale.com/; ComponentLink2Description: Datasheet; ComponentLink2URL: http://cache.freescale.com/files/32bit/doc/data_sheet/MCF51AG128.pdf?fpsp=1&WT_TYPE=Data%20Sheets&WT_VENDOR=FREESCALE&WT_FILE_FORMAT=pdf&WT_ASSET=Documentation
footprint 1418-01_N (QFP, 80-Leads, Body 14x14mm, Pitch 0.65mm, IPC Medium Density)
footprint 1418-01_L (QFP, 80-Leads, Body 14x14mm, Pitch 0.65mm, IPC High Density)
footprint 1418-01_M (QFP, 80-Leads, Body 14x14mm, Pitch 0.65mm, IPC Low Density)
part A pins: 1 PTC0/SCL (io), 2 PTC1/SDA (io), 4 PTF0/RGPIO8/FTM1CH2 (io), 5 PTF1/RGPIO9/FTM1CH3 (io), 6 PTF2/RGPIO10/FTM1CH4 (io), 7 PTF3/RGPIO11/FTM1CH5 (io), 8 PTF4/RGPIO12/FTM2CH0 (io), 9 PTC6/FTM2FLT (io), 10 PTF7/RGPIO15 (io), 11 PTF5/RGPIO13/FTM2CH1 (io), 12 PTF6/RGPIO14/FTM1FLT (io), 13 PTJ0/PST0 (io), 14 PTJ1/PST1 (io), 15 PTJ2/PST2 (io), 16 PTJ3/PST3 (io), 17 PTE0/RGPIO0/TxD1 (io), 18 PTE1/RGPIO1/RxD1 (io), 19 PTE2/RGPIO2/FTM1CH0 (io), 20 PTE3/RGPIO3/FTM1CH1 (io), 21 PTE4/RGPIO4/~{SS1} (io), 22 PTE5/RGPIO5/MISO1 (io), 23 PTE6/RGPIO6/MOSI1 (io), 24 PTE7/RGPIO7/SPSCK1 (io), 25 PTJ4/DDATA0/FTM2CH5 (io), 26 PTJ5/DDATA1/FTM2CH4 (io), 27 PTJ6/DDATA2/FTM2CH3 (io), 28 PTJ7/DDATA3/FTM2CH2 (io), 29 PTG0/PSTCLK0/TPM3CH0 (io), 32 PTG1/PSTCLK1/TPM3CH1 (io), 33 PTG2/~{BKPT} (io), 34 PTA0/EWM_IN (io), 35 PTA1/EWM_OUT (io), 36 PTA2/CIN1 (io), 37 PTA3/CMP2OUT (io), 38 PTA4/C2IN2 (io), 39 PTA5/C2IN3 (io), 40 PTA6/MCLK (io), 41 PTA7/ADP23 (io), 42 PTH0/ADP22/FTM2CH2 (io), 43 PTH1/ADP21/FTM2CH3 (io), 44 PTH2/ADP20/FTM2CH4 (io), 45 PTH3/ADP19/FTM2CH5 (io), 46 PTB0/ADP18/TPM3CH0 (io), 47 PTB1/ADP17/TPM3CH1 (io), 48 PTB2/ADP16 (io), 49 PTB3/ADP15 (io), 50 PTB4/ADP14 (io), 51 PTB5/ADP13 (io), 52 PTB6/ADP12 (io), 53 PTB7/ADP11 (io), 54 PTD0/ADP10/C1IN2 (io), 55 PTD1/ADP9/C1IN3 (io), 56 PTC2/ADP8 (io), 57 PTD7/ADP7 (io), 58 PTD2/ADP6/CMP1OUT (io), 59 PTD3/ADP5 (io), 60 PTG3/ADP4 (io), 61 PTG4/ADP3 (io), 62 PTD4/FTM2CLK/ADP2 (io), 63 PTD5/ADP1 (io), 64 PTD6/FTM1CLK/ADP0 (io), 65 PTC4/~{SS2} (io), 72 PTG5/EXTAL (io), 73 PTG6/XTAL (io), 76 PTH4/SPSCK2 (io), 77 PTH5/MOSI2 (io), 78 PTH6/MISO2 (io), 79 PTC3/TxD2 (io), 80 PTC5/RxD2 (io)
part B pins: 3 IRQ/TPMCLK (in), 67 VREFL (power), 68 VREFH (power), 74 BKGD/MS, 75 ~{RESET} (in)
part C pins: 30 VSS (power), 31 VDD (power), 66 VSSA (power), 69 VDDA (power), 70 VDD (power), 71 VSS (power)

## MCF51AG128VQH
designator U?
MCF51AG128 ColdFire V1 Microcontroller, 32-Bit,  128KB Flash, 16KB SRAM, -40°C to 105°C, 64-Pin QFP; DatasheetVersion: rev5, Jun-2010; PackageVersion: rev6, Mar-2011; PackageReference: 840B-02; PackageDescription: 64-Pin Quad Flat Pack, 14 x 14 mm Body, 0.8 mm Pitch; ComponentLink1Description: Manufacturer URL; ComponentLink1URL: http://www.freescale.com/; ComponentLink2Description: Datasheet; ComponentLink2URL: http://cache.freescale.com/files/32bit/doc/data_sheet/MCF51AG128.pdf?fpsp=1&WT_TYPE=Data%20Sheets&WT_VENDOR=FREESCALE&WT_FILE_FORMAT=pdf&WT_ASSET=Documentation
footprint 840B-02_N (QFP, 64-Leads, Body 14x14mm, Pitch 0.8mm, IPC Medium Density)
footprint 840B-02_L (QFP, 64-Leads, Body 14x14mm, Pitch 0.8mm, IPC High Density)
footprint 840B-02_M (QFP, 64-Leads, Body 14x14mm, Pitch 0.8mm, IPC Low Density)
part A pins: 1 PTC0/SCL (io), 2 PTC1/SDA (io), 4 PTF0/RGPIO8/FTM1CH2 (io), 5 PTF1/RGPIO9/FTM1CH3 (io), 6 PTF2/RGPIO10/FTM1CH4 (io), 7 PTF3/RGPIO11/FTM1CH5 (io), 8 PTF4/RGPIO12/FTM2CH0 (io), 9 PTC6/FTM2FLT (io), 10 PTF7/RGPIO15 (io), 11 PTF5/RGPIO13/FTM2CH1 (io), 12 PTF6/RGPIO14/FTM1FLT (io), 13 PTE0/RGPIO0/TxD1 (io), 14 PTE1/RGPIO1/RxD1 (io), 15 PTE2/RGPIO2/FTM1CH0 (io), 16 PTE3/RGPIO3/FTM1CH1 (io), 17 PTE4/RGPIO4/~{SS1} (io), 18 PTE5/RGPIO5/MISO1 (io), 19 PTE6/RGPIO6/MOSI1 (io), 20 PTE7/RGPIO7/SPSCK1 (io), 21 PTJ6/DDATA2/FTM2CH3 (io), 22 PTJ7/DDATA3/FTM2CH2 (io), 23 PTG0/PSTCLK0/TPM3CH0 (io), 26 PTA0/EWM_IN (io), 27 PTA1/EWM_OUT (io), 28 PTA2/CIN1 (io), 29 PTA3/CMP2OUT (io), 30 PTA4/C2IN2 (io), 31 PTA5/C2IN3 (io), 32 PTA6/MCLK (io), 33 PTA7/ADP23 (io), 34 PTB0/ADP18/TPM3CH0 (io), 35 PTB1/ADP17/TPM3CH1 (io), 36 PTB2/ADP16 (io), 37 PTB3/ADP15 (io), 38 PTB4/ADP14 (io), 39 PTB5/ADP13 (io), 40 PTB6/ADP12 (io), 41 PTB7/ADP11 (io), 42 PTD0/ADP10/C1IN2 (io), 43 PTD1/ADP9/C1IN3 (io), 44 PTC2/ADP8 (io), 45 PTD7/ADP7 (io), 46 PTD2/ADP6/CMP1OUT (io), 47 PTD3/ADP5 (io), 48 PTG3/ADP4 (io), 49 PTD4/FTM2CLK/ADP2 (io), 50 PTD5/ADP1 (io), 51 PTD6/FTM1CLK/ADP0 (io), 58 PTG5/EXTAL (io), 59 PTG6/XTAL (io), 62 PTH5/MOSI2 (io), 63 PTC3/TxD2 (io), 64 PTC5/RxD2 (io)
part B pins: 3 IRQ/TPMCLK (in), 53 VREFL (power), 54 VREFH (power), 60 BKGD/MS, 61 ~{RESET} (in)
part C pins: 24 VSS (power), 25 VDD (power), 52 VSSA (power), 55 VDDA (power), 56 VDD (power), 57 VSS (power)

## MCF51CN128CGT
designator U?
MCF51CN128 ColdFire V1 Microcontroller, 32-Bit, 128KB Flash, 24KB RAM, -40°C to 85°C, 48-Pin QFN; DatasheetVersion: rev4, May-2009; PackageVersion: revF, Dec-2005; PackageReference: 1314-05; PackageDescription: 48-Pin Quad Flat No-Lead, 7 x 7 mm Body, 0.5 mm Pitch; Code_JEDEC: MO-220; ComponentLink1Description: Manufacturer URL; ComponentLink1URL: http://www.freescale.com/; ComponentLink2Description: Datasheet; ComponentLink2URL: http://cache.freescale.com/files/32bit/doc/data_sheet/MCF51CN128.pdf?fpsp=1&WT_TYPE=Data%20Sheets&WT_VENDOR=FREESCALE&WT_FILE_FORMAT=pdf&WT_ASSET=Documentation
footprint 1314-05_N (QFN, 48-Leads, Body 7x7mm, Pitch 0.5mm, Thermal Pad 5.3x5.3mm, IPC Medium Density)
footprint 1314-05_L (QFN, 48-Leads, Body 7x7mm, Pitch 0.5mm, Thermal Pad 5.3x5.3mm, IPC High Density)
footprint 1314-05_M (QFN, 48-Leads, Body 7x7mm, Pitch 0.5mm, Thermal Pad 5.3x5.3mm, IPC Low Density)
part A pins: 3 PTA0/PHYCLK (io), 4 PTA1/MII_MDIO/SDA2 (io), 5 PTA2/MII_MDC/SCL2 (io), 6 PTA3/MII_RXD3/TXD3 (io), 7 PTA4/MII_RXD2/RXD3 (io), 8 PTA5/MII_RXD1/SPSCK2 (io), 9 PTA6/MII_RXD0/MISO2 (io), 10 PTA7/MII_RX_DV/MOSI2 (io), 11 PTB0/MII_RX_CLK/~{SS2} (io), 12 PTB1/MII_RX_ER/TMRCLK1 (io), 15 PTB2/MII_TX_ER/~{SS1} (io), 16 PTB3/MII_TX_CLK/MOSI1 (io), 17 PTB4/MII_TX_EN/MISO1 (io), 18 PTB5/MII_TXD0/SPSCK1 (io), 19 PTB6/MII_TXD1/TPM2CH0 (io), 20 PTB7/MII_TXD2/TPM2CH1 (io), 21 PTC0/MII_TXD3/TPM2CH2 (io), 22 PTC1/MII_COL/SCL1 (io), 23 PTC2/MII_CRS/SDA1 (io), 24 ~{RESET}/PTC3 (io), 29 PTC4/IRQ/~{SS1}/ADP11 (io), 30 PTC5/MOSI1/ADP10 (io), 31 PTC6/SCL2/MISO1/ADP9 (io), 32 PTC7/SDA2/SPSCK1/ADP8 (io), 33 PTD0/RGPIO0/TXD1/ADP7 (io), 34 PTD1/RGPIO1/RXD1/ADP6 (io), 35 PTD2/RGPIO2/TXD2/ADP5 (io), 36 PTD3/RGPIO3/RXD2/ADP4 (io), 39 PTD4/RGPIO4/EXTAL (io), 40 PTD5/RGPIO5/XTAL (io), 41 BKGD/MS/PTD6/RGPIO6 (io), 42 PTD7/RGPIO7/SPSCK2/ADP3 (io), 43 PTE0/KBI2P0/MISO2/ADP2 (io), 44 PTE1/KBI2P1/MOSI2/ADP1 (io), 45 PTE2/KBI2P2/~{SS2}/ADP0 (io), 46 PTE3/KBI2P3/TPM1CH0 (io), 47 PTE4/KBI2P4/CLKOUT/TPM1CH1 (io), 48 PTE5/KBI2P5/IRQ/TPM1CH2 (io)
part B pins: 1 VDD1 (power), 2 VSS1 (power), 13 VDD2 (power), 14 VSS2 (power), 25 VDD3 (power), 26 VSS3 (power), 27 VDDA (power), 28 VSSA (power), 37 VDD4 (power), 38 VSS4 (power), 49 Exposed Pad (power)

## MCF51CN128CLH
designator U?
MCF51CN128 ColdFire V1 Microcontroller, 32-Bit, 128KB Flash, 24KB RAM, -40°C to 85°C, 64-Pin LQFP; DatasheetVersion: rev4, May-2009; PackageVersion: rev6, Mar-2011; PackageReference: 840F-02; PackageDescription: 64-Pin Thin Quad Flat Pack, 10 x 10 mm Body, 0.5 mm Pitch; ComponentLink1Description: Manufacturer URL; ComponentLink1URL: http://www.freescale.com/; ComponentLink2Description: Datasheet; ComponentLink2URL: http://cache.freescale.com/files/32bit/doc/data_sheet/MCF51CN128.pdf?fpsp=1&WT_TYPE=Data%20Sheets&WT_VENDOR=FREESCALE&WT_FILE_FORMAT=pdf&WT_ASSET=Documentation
footprint 840F-02_N (Thin QFP, 64-Leads, Body 10x10mm, Pitch 0.5mm, IPC Medium Density)
footprint 840F-02_L (Thin QFP, 64-Leads, Body 10x10mm, Pitch 0.5mm, IPC High Density)
footprint 840F-02_M (Thin QFP, 64-Leads, Body 10x10mm, Pitch 0.5mm, IPC Low Density)
part A pins: 3 PTA0/PHYCLK (io), 4 PTA1/MII_MDIO/SDA2 (io), 5 PTA2/MII_MDC/SCL2 (io), 6 PTA3/MII_RXD3/TXD3 (io), 7 PTA4/MII_RXD2/RXD3 (io), 8 PTA5/MII_RXD1/SPSCK2 (io), 9 PTA6/MII_RXD0/MISO2 (io), 10 PTA7/MII_RX_DV/MOSI2 (io), 11 PTB0/MII_RX_CLK/~{SS2} (io), 12 PTB1/MII_RX_ER/TMRCLK1 (io), 13 PTF0/RGPIO8/FB_A19/FB_AD19 (io), 14 PTF1/RGPIO9/FB_A18/FB_AD18 (io), 15 PTF2/RGPIO10/FB_A17/FB_AD17 (io), 16 PTF3/RGPIO11/FB_A16/FB_AD16 (io), 19 PTB2/MII_TX_ER/~{SS1} (io), 20 PTB3/MII_TX_CLK/MOSI1 (io), 21 PTB4/MII_TX_EN/MISO1 (io), 22 PTB5/MII_TXD0/SPSCK1 (io), 23 PTB6/MII_TXD1/TPM2CH0 (io), 24 PTB7/MII_TXD2/TPM2CH1 (io), 25 PTC0/MII_TXD3/TPM2CH2 (io), 26 PTC1/MII_COL/SCL1 (io), 27 PTC2/MII_CRS/SDA1 (io), 28 ~{RESET}/PTC3, 29 PTF4/RGPIO12/FB_D5/TMRCLK2 (io), 30 PTF5/RGPIO13/FB_D4/TPM2CH0 (io), 31 PTF6/RGPIO14/FB_A14/FB_AD14/TPM2CH1 (io), 32 PTF7/RGPIO15/FB_A13/FB_AD13/TPM2CH2 (io), 37 PTC4/IRQ/~{SS1}/ADP11 (io), 38 PTC5/MOSI1/ADP10 (io), 39 PTC6/SCL2/MISO1/ADP9 (io), 40 PTC7/SDA2/SPSCK1/ADP8 (io), 41 PTD0/RGPIO0/TXD1/ADP7 (io), 42 PTD1/RGPIO1/RXD1/ADP6 (io), 43 PTD2/RGPIO2/TXD2/ADP5 (io), 44 PTD3/RGPIO3/RXD2/ADP4 (io), 45 PTG0/KBI1P0/FB_A8/FB_AD8/SCL2 (io), 46 PTG1/KBI1P1/FB_A7/FB_AD7/SDA2 (io), 47 PTG2/KBI1P2/FB_A6/FB_AD6/SCL1 (io), 48 PTG3/KBI1P3/FB_A5/FB_AD5/SDA1 (io), 51 PTD4/RGPIO4/EXTAL (io), 52 PTD5/RGPIO5/XTAL (io), 53 BKGD/MS/PTD6/RGPIO6, 54 PTD7/RGPIO7/SPSCK2/ADP3 (io), 55 PTE0/KBI2P0/MISO2/ADP2 (io), 56 PTE1/KBI2P1/MOSI2/ADP1 (io), 57 PTE2/KBI2P2/~{SS2}/ADP0 (io), 58 PTE3/KBI2P3/TPM1CH0 (io), 59 PTE4/KBI2P4/CLKOUT/TPM1CH1 (io), 60 PTE5/KBI2P5/IRQ/TPM1CH2 (io), 61 PTE6/KBI2P6/FB_D0/TXD3 (io), 62 PTE7/KBI2P7/~{FB_CS0}/RXD3 (io), 63 PTJ0/FB_ALE/~{FB_CS1} (io), 64 PTJ1/FB_A4/FB_AD4 (io)
part B pins: 1 VDD1 (power), 2 VSS1 (power), 17 VDD2 (power), 18 VSS2 (power), 33 VDD3 (power), 34 VSS3 (power), 35 VDDA (power), 36 VSSA (power), 49 VDD4 (power), 50 VSS4 (power)

## MCF51CN128CLK
designator U?
MCF51CN128 ColdFire V1 Microcontroller, 32-Bit, 128KB Flash, 24KB RAM, -40°C to 85°C, 80-Pin LQFP; DatasheetVersion: rev4, May-2009; PackageVersion: 21/09/1995; PackageReference: 917A-02; PackageDescription: 80-Pin Thin Quad Flat Pack 0.65 mm Pitch; ComponentLink1Description: Manufacturer URL; ComponentLink1URL: http://www.freescale.com/; ComponentLink2Description: Datasheet; ComponentLink2URL: http://cache.freescale.com/files/32bit/doc/data_sheet/MCF51CN128.pdf?fpsp=1&WT_TYPE=Data%20Sheets&WT_VENDOR=FREESCALE&WT_FILE_FORMAT=pdf&WT_ASSET=Documentation
footprint 917A-02_N (Thin QFP, 80-Leads, Body 14 x 14mm, Pitch 0.65mm, IPC Medium Density)
footprint 917A-02_L (Thin QFP, 80-Leads, Body 14 x 14mm, Pitch 0.65mm, IPC High Density)
footprint 917A-02_M (Thin QFP, 80-Leads, Body 14 x 14mm, Pitch 0.65mm, IPC Low Density)
part A pins: 3 PTA0/PHYCLK (io), 4 PTA1/MII_MDIO/SDA2 (io), 5 PTA2/MII_MDC/SCL2 (io), 6 PTA3/MII_RXD3/TXD3 (io), 7 PTA4/MII_RXD2/RXD3 (io), 8 PTA5/MII_RXD1/SPSCK2 (io), 9 PTA6/MII_RXD0/MISO2 (io), 10 PTA7/MII_RX_DV/MOSI2 (io), 11 PTB0/MII_RX_CLK/~{SS2} (io), 12 PTB1/MII_RX_ER/TMRCLK1 (io), 13 PTF0/RGPIO8/FB_A19/FB_AD19 (io), 14 PTF1/RGPIO9/FB_A18/FB_AD18 (io), 15 PTF2/RGPIO10/FB_A17/FB_AD17 (io), 16 PTF3/RGPIO11/FB_A16/FB_AD16 (io), 17 PTH0/FB_A15/FB_AD15 (io), 18 PTH1/~{FB_OE} (io), 19 PTH2/FB_D7/TMRCLK1 (io), 20 PTH3/FB_D6/TPM2CH0 (io), 23 PTB2/MII_TX_ER/~{S}S~{1} (io), 24 PTB3/MII_TX_CLK/MOSI1 (io), 25 PTB4/MII_TX_EN/MISO1 (io), 26 PTB5/MII_TXD0/SPSCK1 (io), 27 PTB6/MII_TXD1/TPM2CH0 (io), 28 PTB7/MII_TXD2/TPM2CH1 (io), 29 PTC0/MII_TXD3/TPM2CH2 (io), 30 PTC1/MII_COL/SCL1 (io), 31 PTC2/MII_CRS/SDA1 (io), 32 ~{RESET}/PTC3, 33 PTF4/RGPIO12/FB_D5/TMRCLK2 (io), 34 PTF5/RGPIO13/FB_D4/TPM2CH0 (io), 35 PTF6/RGPIO14/FB_A14/FB_AD14/TPM2CH1 (io), 36 PTF7/RGPIO15/FB_A13/FB_AD13/TPM2CH2 (io), 37 PTH4/FB_A12/FB_AD12 (io), 38 PTH5/FB_A11/FB_AD11 (io), 39 PTH6/FB_A10/FB_AD10/TPM2CH1 (io), 40 PTH7/FB_A9/FB_AD9/TPM2CH2 (io), 45 PTC4/IRQ/~{SS1}/ADP11 (io), 46 PTC5/MOSI1/ADP10 (io), 47 PTC6/SCL2/MISO1/ADP9 (io), 48 PTC7/SDA2/SPSCK1/ADP8 (io), 49 PTD0/RGPIO0/TXD1/ADP7 (io), 50 PTD1/RGPIO1/RXD1/ADP6 (io), 51 PTD2/RGPIO2/TXD2/ADP5 (io), 52 PTD3/RGPIO3/RXD2/ADP4 (io), 53 PTG0/KBI1P0/FB_A8/FB_AD8/SCL2 (io), 54 PTG1/KBI1P1/FB_A7/FB_AD7/SDA2 (io), 55 PTG2/KBI1P2/FB_A6/FB_AD6/SCL1 (io), 56 PTG3/KBI1P3/FB_A5/FB_AD5/SDA1 (io), 57 PTG4/KBI1P4/FB_R~{W} (io), 58 PTG5/KBI1P5/FB_D3 (io), 59 PTG6/KBI1P6/FB_D2 (io), 60 PTG7/KBI1P7/FB_D1 (io), 63 PTD4/RGPIO4/EXTAL (io), 64 PTD5/RGPIO5/XTAL (io), 65 BKGD/MS/PTD6/RGPIO6, 66 PTD7/RGPIO7/SPSCK2/ADP3 (io), 67 PTE0/KBI2P0/MISO2/ADP2 (io), 68 PTE1/KBI2P1/MOSI2/ADP1 (io), 69 PTE2/KBI2P2/~{SS2}/ADP0 (io), 70 PTE3/KBI2P3/TPM1CH0 (io), 71 PTE4/KBI2P4/CLKOUT/TPM1CH1 (io), 72 PTE5/KBI2P5/IRQ/TPM1CH2 (io), 73 PTE6/KBI2P6/FB_D0/TXD3 (io), 74 PTE7/KBI2P7/~{FB_CS0}/RXD3 (io), 75 PTJ0/FB_ALE/~{FB_CS1} (io), 76 PTJ1/FB_A4/FB_AD4 (io), 77 PTJ2/FB_A3/FB_AD3 (io), 78 PTJ3/FB_A2/FB_AD2 (io), 79 PTJ4/FB_A1/FB_AD1 (io), 80 PTJ5/FB_A0/FB_AD0 (io)
part B pins: 1 VDD1, 2 VSS1, 21 VDD2, 22 VSS2, 41 VDD3, 42 VSS3, 43 VDDA, 44 VSSA, 61 VDD4, 62 VSS4

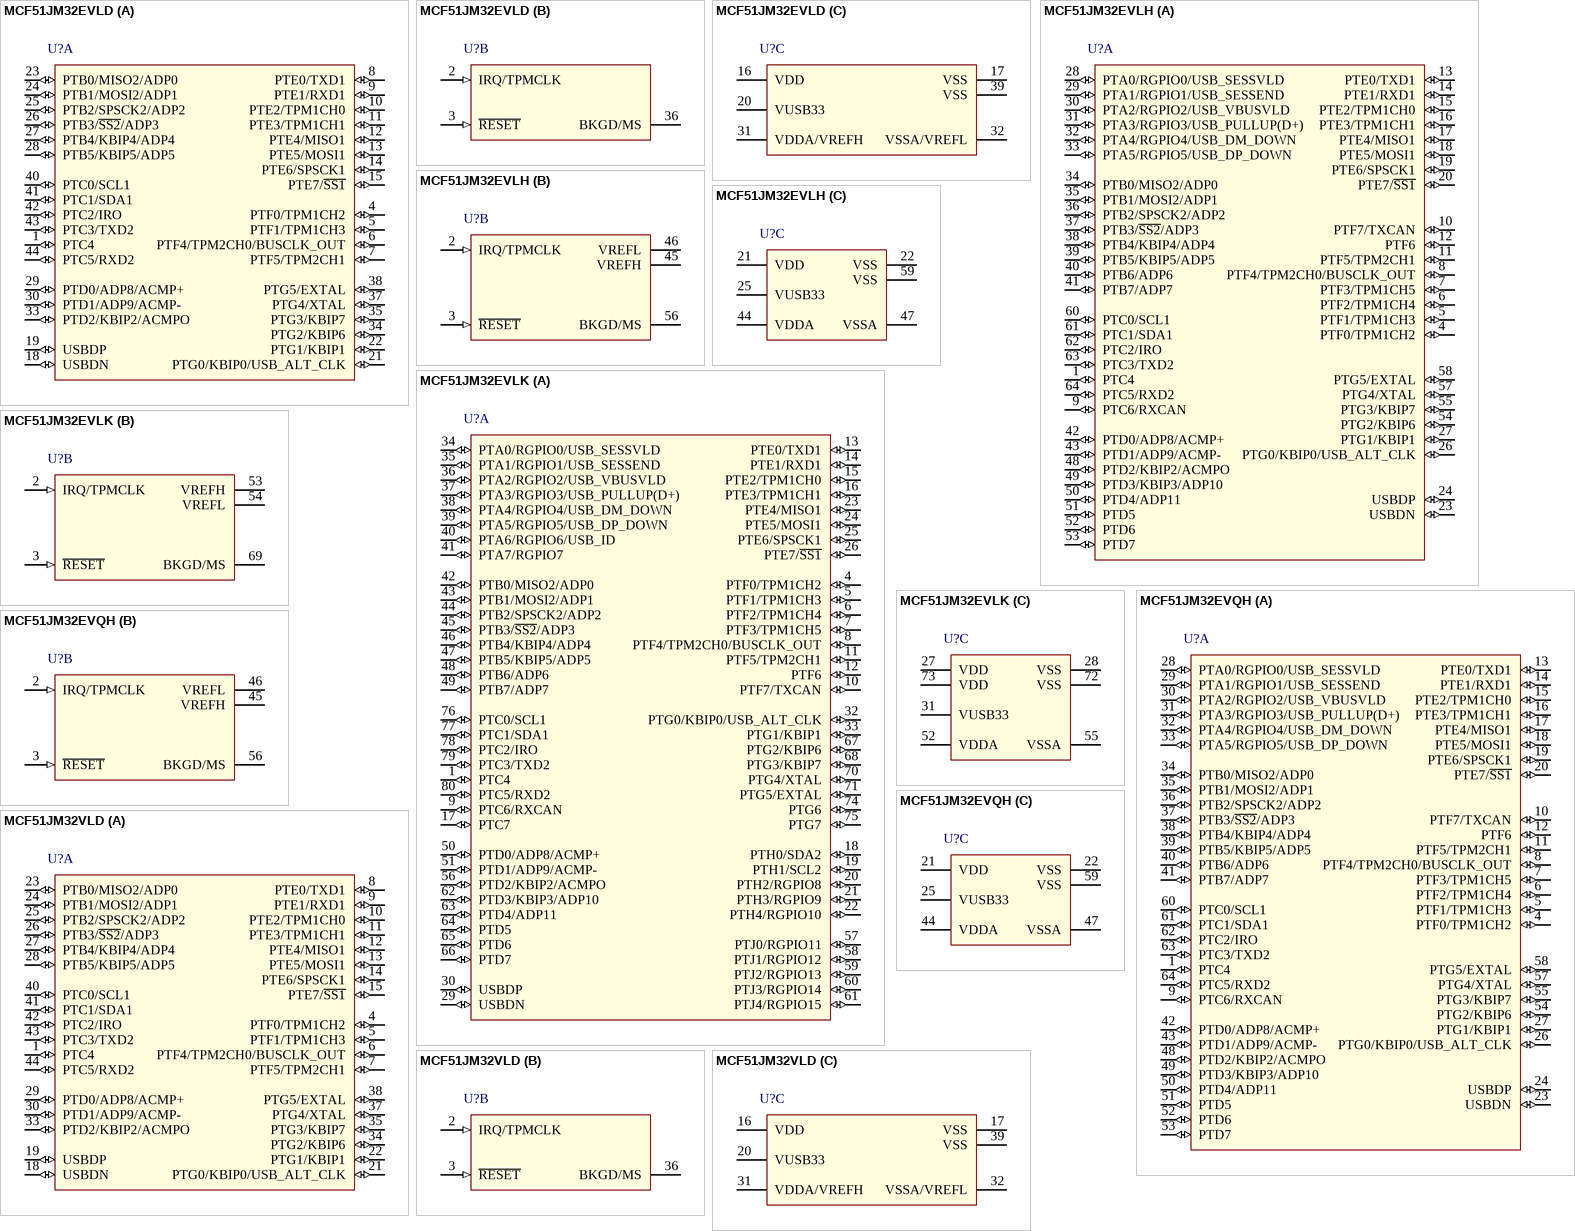
[diagram p8: symbols MCF51JM32EVLD to MCF51JM32VLD]

## MCF51JM32EVLD
designator U?
MCF51JM32 ColdFire V1 Microcontroller with CAU and RNGA Enabled, 32-Bit, 32KB Flash, 16KB SRAM, -40°C to 105°C, 44-Pin LQFP; DatasheetVersion: rev3, Jun-2009; PackageVersion: rev3, Jun-2009; PackageReference: 824D-02; PackageDescription: 44-Pin Thin Quad Flat Pack, 10 x 10 mm Body, 0.8 mm Pitch; Code_JEDEC: MS-026-BCB; ComponentLink1Description: Manufacturer URL; ComponentLink1URL: http://www.freescale.com/; ComponentLink2Description: Datasheet; ComponentLink2URL: http://cache.freescale.com/files/32bit/doc/data_sheet/MCF51JM128.pdf?fpsp=1&WT_TYPE=Data%20Sheets&WT_VENDOR=FREESCALE&WT_FILE_FORMAT=pdf&WT_ASSET=Documentation
footprint 824D-02_N (Thin QFP, 44-Leads, Body 10x10mm, Pitch 0.8mm, IPC Medium Density)
footprint 824D-02_L (Thin QFP, 44-Leads, Body 10x10mm, Pitch 0.8mm, IPC High Density)
footprint 824D-02_M (Thin QFP, 44-Leads, Body 10x10mm, Pitch 0.8mm, IPC Low Density)
part A pins: 1 PTC4 (io), 4 PTF0/TPM1CH2 (io), 5 PTF1/TPM1CH3 (io), 6 PTF4/TPM2CH0/BUSCLK_OUT (io), 7 PTF5/TPM2CH1 (io), 8 PTE0/TXD1 (io), 9 PTE1/RXD1 (io), 10 PTE2/TPM1CH0 (io), 11 PTE3/TPM1CH1 (io), 12 PTE4/MISO1 (io), 13 PTE5/MOSI1 (io), 14 PTE6/SPSCK1 (io), 15 PTE7/~{SS1} (io), 18 USBDN (io), 19 USBDP (io), 21 PTG0/KBIP0/USB_ALT_CLK (io), 22 PTG1/KBIP1 (io), 23 PTB0/MISO2/ADP0 (io), 24 PTB1/MOSI2/ADP1 (io), 25 PTB2/SPSCK2/ADP2 (io), 26 PTB3/~{SS2}/ADP3 (io), 27 PTB4/KBIP4/ADP4 (io), 28 PTB5/KBIP5/ADP5 (io), 29 PTD0/ADP8/ACMP+ (io), 30 PTD1/ADP9/ACMP- (io), 33 PTD2/KBIP2/ACMPO (io), 34 PTG2/KBIP6 (io), 35 PTG3/KBIP7 (io), 37 PTG4/XTAL (io), 38 PTG5/EXTAL (io), 40 PTC0/SCL1 (io), 41 PTC1/SDA1 (io), 42 PTC2/IRO (io), 43 PTC3/TXD2 (io), 44 PTC5/RXD2 (io)
part B pins: 2 IRQ/TPMCLK (in), 3 ~{RESET} (in), 36 BKGD/MS
part C pins: 16 VDD (power), 17 VSS (power), 20 VUSB33 (power), 31 VDDA/VREFH (power), 32 VSSA/VREFL (power), 39 VSS (power)

## MCF51JM32EVLH
designator U?
MCF51JM32 ColdFire V1 Microcontroller with CAU and RNGA Enabled, 32-Bit, 32KB Flash, 16KB SRAM, -40°C to 105°C, 64-Pin LQFP; DatasheetVersion: rev3, Jun-2009; PackageVersion: rev6, Mar-2011; PackageReference: 840F-02; PackageDescription: 64-Pin Thin Quad Flat Pack, 10 x 10 mm Body, 0.5 mm Pitch; ComponentLink1Description: Manufacturer URL; ComponentLink1URL: http://www.freescale.com/; ComponentLink2Description: Datasheet; ComponentLink2URL: http://cache.freescale.com/files/32bit/doc/data_sheet/MCF51JM128.pdf?fpsp=1&WT_TYPE=Data%20Sheets&WT_VENDOR=FREESCALE&WT_FILE_FORMAT=pdf&WT_ASSET=Documentation
footprint 840F-02_N (Thin QFP, 64-Leads, Body 10x10mm, Pitch 0.5mm, IPC Medium Density)
footprint 840F-02_L (Thin QFP, 64-Leads, Body 10x10mm, Pitch 0.5mm, IPC High Density)
footprint 840F-02_M (Thin QFP, 64-Leads, Body 10x10mm, Pitch 0.5mm, IPC Low Density)
part A pins: 1 PTC4 (io), 4 PTF0/TPM1CH2 (io), 5 PTF1/TPM1CH3 (io), 6 PTF2/TPM1CH4 (io), 7 PTF3/TPM1CH5 (io), 8 PTF4/TPM2CH0/BUSCLK_OUT (io), 9 PTC6/RXCAN (io), 10 PTF7/TXCAN (io), 11 PTF5/TPM2CH1 (io), 12 PTF6 (io), 13 PTE0/TXD1 (io), 14 PTE1/RXD1 (io), 15 PTE2/TPM1CH0 (io), 16 PTE3/TPM1CH1 (io), 17 PTE4/MISO1 (io), 18 PTE5/MOSI1 (io), 19 PTE6/SPSCK1 (io), 20 PTE7/~{SS1} (io), 23 USBDN (io), 24 USBDP (io), 26 PTG0/KBIP0/USB_ALT_CLK (io), 27 PTG1/KBIP1 (io), 28 PTA0/RGPIO0/USB_SESSVLD (io), 29 PTA1/RGPIO1/USB_SESSEND (io), 30 PTA2/RGPIO2/USB_VBUSVLD (io), 31 PTA3/RGPIO3/USB_PULLUP(D+) (io), 32 PTA4/RGPIO4/USB_DM_DOWN (io), 33 PTA5/RGPIO5/USB_DP_DOWN (io), 34 PTB0/MISO2/ADP0 (io), 35 PTB1/MOSI2/ADP1 (io), 36 PTB2/SPSCK2/ADP2 (io), 37 PTB3/~{SS2}/ADP3 (io), 38 PTB4/KBIP4/ADP4 (io), 39 PTB5/KBIP5/ADP5 (io), 40 PTB6/ADP6 (io), 41 PTB7/ADP7 (io), 42 PTD0/ADP8/ACMP+ (io), 43 PTD1/ADP9/ACMP- (io), 48 PTD2/KBIP2/ACMPO (io), 49 PTD3/KBIP3/ADP10 (io), 50 PTD4/ADP11 (io), 51 PTD5 (io), 52 PTD6 (io), 53 PTD7 (io), 54 PTG2/KBIP6 (io), 55 PTG3/KBIP7 (io), 57 PTG4/XTAL (io), 58 PTG5/EXTAL (io), 60 PTC0/SCL1 (io), 61 PTC1/SDA1 (io), 62 PTC2/IRO (io), 63 PTC3/TXD2 (io), 64 PTC5/RXD2 (io)
part B pins: 2 IRQ/TPMCLK (in), 3 ~{RESET} (in), 45 VREFH (power), 46 VREFL (power), 56 BKGD/MS
part C pins: 21 VDD (power), 22 VSS (power), 25 VUSB33 (power), 44 VDDA (power), 47 VSSA (power), 59 VSS (power)

## MCF51JM32EVLK
designator U?
MCF51JM32 ColdFire V1 Microcontroller with CAU and RNGA Enabled, 32-Bit, 32KB Flash, 16KB SRAM, -40°C to 105°C, 80-Pin LQFP; DatasheetVersion: rev3, Jun-2009; PackageVersion: revC, May-2005; PackageReference: 1418-01; PackageDescription: 80-Pin Quad Flat Pack 0.65 mm Pitch; ComponentLink1Description: Manufacturer URL; ComponentLink1URL: http://www.freescale.com/; ComponentLink2Description: Datasheet; ComponentLink2URL: http://cache.freescale.com/files/32bit/doc/data_sheet/MCF51JM128.pdf?fpsp=1&WT_TYPE=Data%20Sheets&WT_VENDOR=FREESCALE&WT_FILE_FORMAT=pdf&WT_ASSET=Documentation
footprint 1418-01_N (QFP, 80-Leads, Body 14x14mm, Pitch 0.65mm, IPC Medium Density)
footprint 1418-01_L (QFP, 80-Leads, Body 14x14mm, Pitch 0.65mm, IPC High Density)
footprint 1418-01_M (QFP, 80-Leads, Body 14x14mm, Pitch 0.65mm, IPC Low Density)
part A pins: 1 PTC4 (io), 4 PTF0/TPM1CH2 (io), 5 PTF1/TPM1CH3 (io), 6 PTF2/TPM1CH4 (io), 7 PTF3/TPM1CH5 (io), 8 PTF4/TPM2CH0/BUSCLK_OUT (io), 9 PTC6/RXCAN (io), 10 PTF7/TXCAN (io), 11 PTF5/TPM2CH1 (io), 12 PTF6 (io), 13 PTE0/TXD1 (io), 14 PTE1/RXD1 (io), 15 PTE2/TPM1CH0 (io), 16 PTE3/TPM1CH1 (io), 17 PTC7 (io), 18 PTH0/SDA2 (io), 19 PTH1/SCL2 (io), 20 PTH2/RGPIO8 (io), 21 PTH3/RGPIO9 (io), 22 PTH4/RGPIO10 (io), 23 PTE4/MISO1 (io), 24 PTE5/MOSI1 (io), 25 PTE6/SPSCK1 (io), 26 PTE7/~{SS1} (io), 29 USBDN (io), 30 USBDP (io), 32 PTG0/KBIP0/USB_ALT_CLK (io), 33 PTG1/KBIP1 (io), 34 PTA0/RGPIO0/USB_SESSVLD (io), 35 PTA1/RGPIO1/USB_SESSEND (io), 36 PTA2/RGPIO2/USB_VBUSVLD (io), 37 PTA3/RGPIO3/USB_PULLUP(D+) (io), 38 PTA4/RGPIO4/USB_DM_DOWN (io), 39 PTA5/RGPIO5/USB_DP_DOWN (io), 40 PTA6/RGPIO6/USB_ID (io), 41 PTA7/RGPIO7 (io), 42 PTB0/MISO2/ADP0 (io), 43 PTB1/MOSI2/ADP1 (io), 44 PTB2/SPSCK2/ADP2 (io), 45 PTB3/~{SS2}/ADP3 (io), 46 PTB4/KBIP4/ADP4 (io), 47 PTB5/KBIP5/ADP5 (io), 48 PTB6/ADP6 (io), 49 PTB7/ADP7 (io), 50 PTD0/ADP8/ACMP+ (io), 51 PTD1/ADP9/ACMP- (io), 56 PTD2/KBIP2/ACMPO (io), 57 PTJ0/RGPIO11 (io), 58 PTJ1/RGPIO12 (io), 59 PTJ2/RGPIO13 (io), 60 PTJ3/RGPIO14 (io), 61 PTJ4/RGPIO15 (io), 62 PTD3/KBIP3/ADP10 (io), 63 PTD4/ADP11 (io), 64 PTD5 (io), 65 PTD6 (io), 66 PTD7 (io), 67 PTG2/KBIP6 (io), 68 PTG3/KBIP7 (io), 70 PTG4/XTAL (io), 71 PTG5/EXTAL (io), 74 PTG6 (io), 75 PTG7 (io), 76 PTC0/SCL1 (io), 77 PTC1/SDA1 (io), 78 PTC2/IRO (io), 79 PTC3/TXD2 (io), 80 PTC5/RXD2 (io)
part B pins: 2 IRQ/TPMCLK (in), 3 ~{RESET} (in), 53 VREFH (power), 54 VREFL (power), 69 BKGD/MS
part C pins: 27 VDD (power), 28 VSS (power), 31 VUSB33 (power), 52 VDDA (power), 55 VSSA (power), 72 VSS (power), 73 VDD (power)

## MCF51JM32EVQH
designator U?
MCF51JM32 ColdFire V1 Microcontroller with CAU and RNGA Enabled, 32-Bit, 32KB Flash, 16KB SRAM, -40°C to 105°C, 64-Pin QFP; DatasheetVersion: rev3, Jun-2009; PackageVersion: rev6, Mar-2011; PackageReference: 840B-02; PackageDescription: 64-Pin Quad Flat Pack, 14 x 14 mm Body, 0.8 mm Pitch; ComponentLink1Description: Manufacturer URL; ComponentLink1URL: http://www.freescale.com/; ComponentLink2Description: Datasheet; ComponentLink2URL: http://cache.freescale.com/files/32bit/doc/data_sheet/MCF51JM128.pdf?fpsp=1&WT_TYPE=Data%20Sheets&WT_VENDOR=FREESCALE&WT_FILE_FORMAT=pdf&WT_ASSET=Documentation
footprint 840B-02_N (QFP, 64-Leads, Body 14x14mm, Pitch 0.8mm, IPC Medium Density)
footprint 840B-02_L (QFP, 64-Leads, Body 14x14mm, Pitch 0.8mm, IPC High Density)
footprint 840B-02_M (QFP, 64-Leads, Body 14x14mm, Pitch 0.8mm, IPC Low Density)
part A pins: 1 PTC4 (io), 4 PTF0/TPM1CH2 (io), 5 PTF1/TPM1CH3 (io), 6 PTF2/TPM1CH4 (io), 7 PTF3/TPM1CH5 (io), 8 PTF4/TPM2CH0/BUSCLK_OUT (io), 9 PTC6/RXCAN (io), 10 PTF7/TXCAN (io), 11 PTF5/TPM2CH1 (io), 12 PTF6 (io), 13 PTE0/TXD1 (io), 14 PTE1/RXD1 (io), 15 PTE2/TPM1CH0 (io), 16 PTE3/TPM1CH1 (io), 17 PTE4/MISO1 (io), 18 PTE5/MOSI1 (io), 19 PTE6/SPSCK1 (io), 20 PTE7/~{SS1} (io), 23 USBDN (io), 24 USBDP (io), 26 PTG0/KBIP0/USB_ALT_CLK (io), 27 PTG1/KBIP1 (io), 28 PTA0/RGPIO0/USB_SESSVLD (io), 29 PTA1/RGPIO1/USB_SESSEND (io), 30 PTA2/RGPIO2/USB_VBUSVLD (io), 31 PTA3/RGPIO3/USB_PULLUP(D+) (io), 32 PTA4/RGPIO4/USB_DM_DOWN (io), 33 PTA5/RGPIO5/USB_DP_DOWN (io), 34 PTB0/MISO2/ADP0 (io), 35 PTB1/MOSI2/ADP1 (io), 36 PTB2/SPSCK2/ADP2 (io), 37 PTB3/~{SS2}/ADP3 (io), 38 PTB4/KBIP4/ADP4 (io), 39 PTB5/KBIP5/ADP5 (io), 40 PTB6/ADP6 (io), 41 PTB7/ADP7 (io), 42 PTD0/ADP8/ACMP+ (io), 43 PTD1/ADP9/ACMP- (io), 48 PTD2/KBIP2/ACMPO (io), 49 PTD3/KBIP3/ADP10 (io), 50 PTD4/ADP11 (io), 51 PTD5 (io), 52 PTD6 (io), 53 PTD7 (io), 54 PTG2/KBIP6 (io), 55 PTG3/KBIP7 (io), 57 PTG4/XTAL (io), 58 PTG5/EXTAL (io), 60 PTC0/SCL1 (io), 61 PTC1/SDA1 (io), 62 PTC2/IRO (io), 63 PTC3/TXD2 (io), 64 PTC5/RXD2 (io)
part B pins: 2 IRQ/TPMCLK (in), 3 ~{RESET} (in), 45 VREFH (power), 46 VREFL (power), 56 BKGD/MS
part C pins: 21 VDD (power), 22 VSS (power), 25 VUSB33 (power), 44 VDDA (power), 47 VSSA (power), 59 VSS (power)